# Altium schematic symbol library 集成IC.SchLib: 66 symbols
Pins are listed as number, name and electrical type; pins without a type are passive.

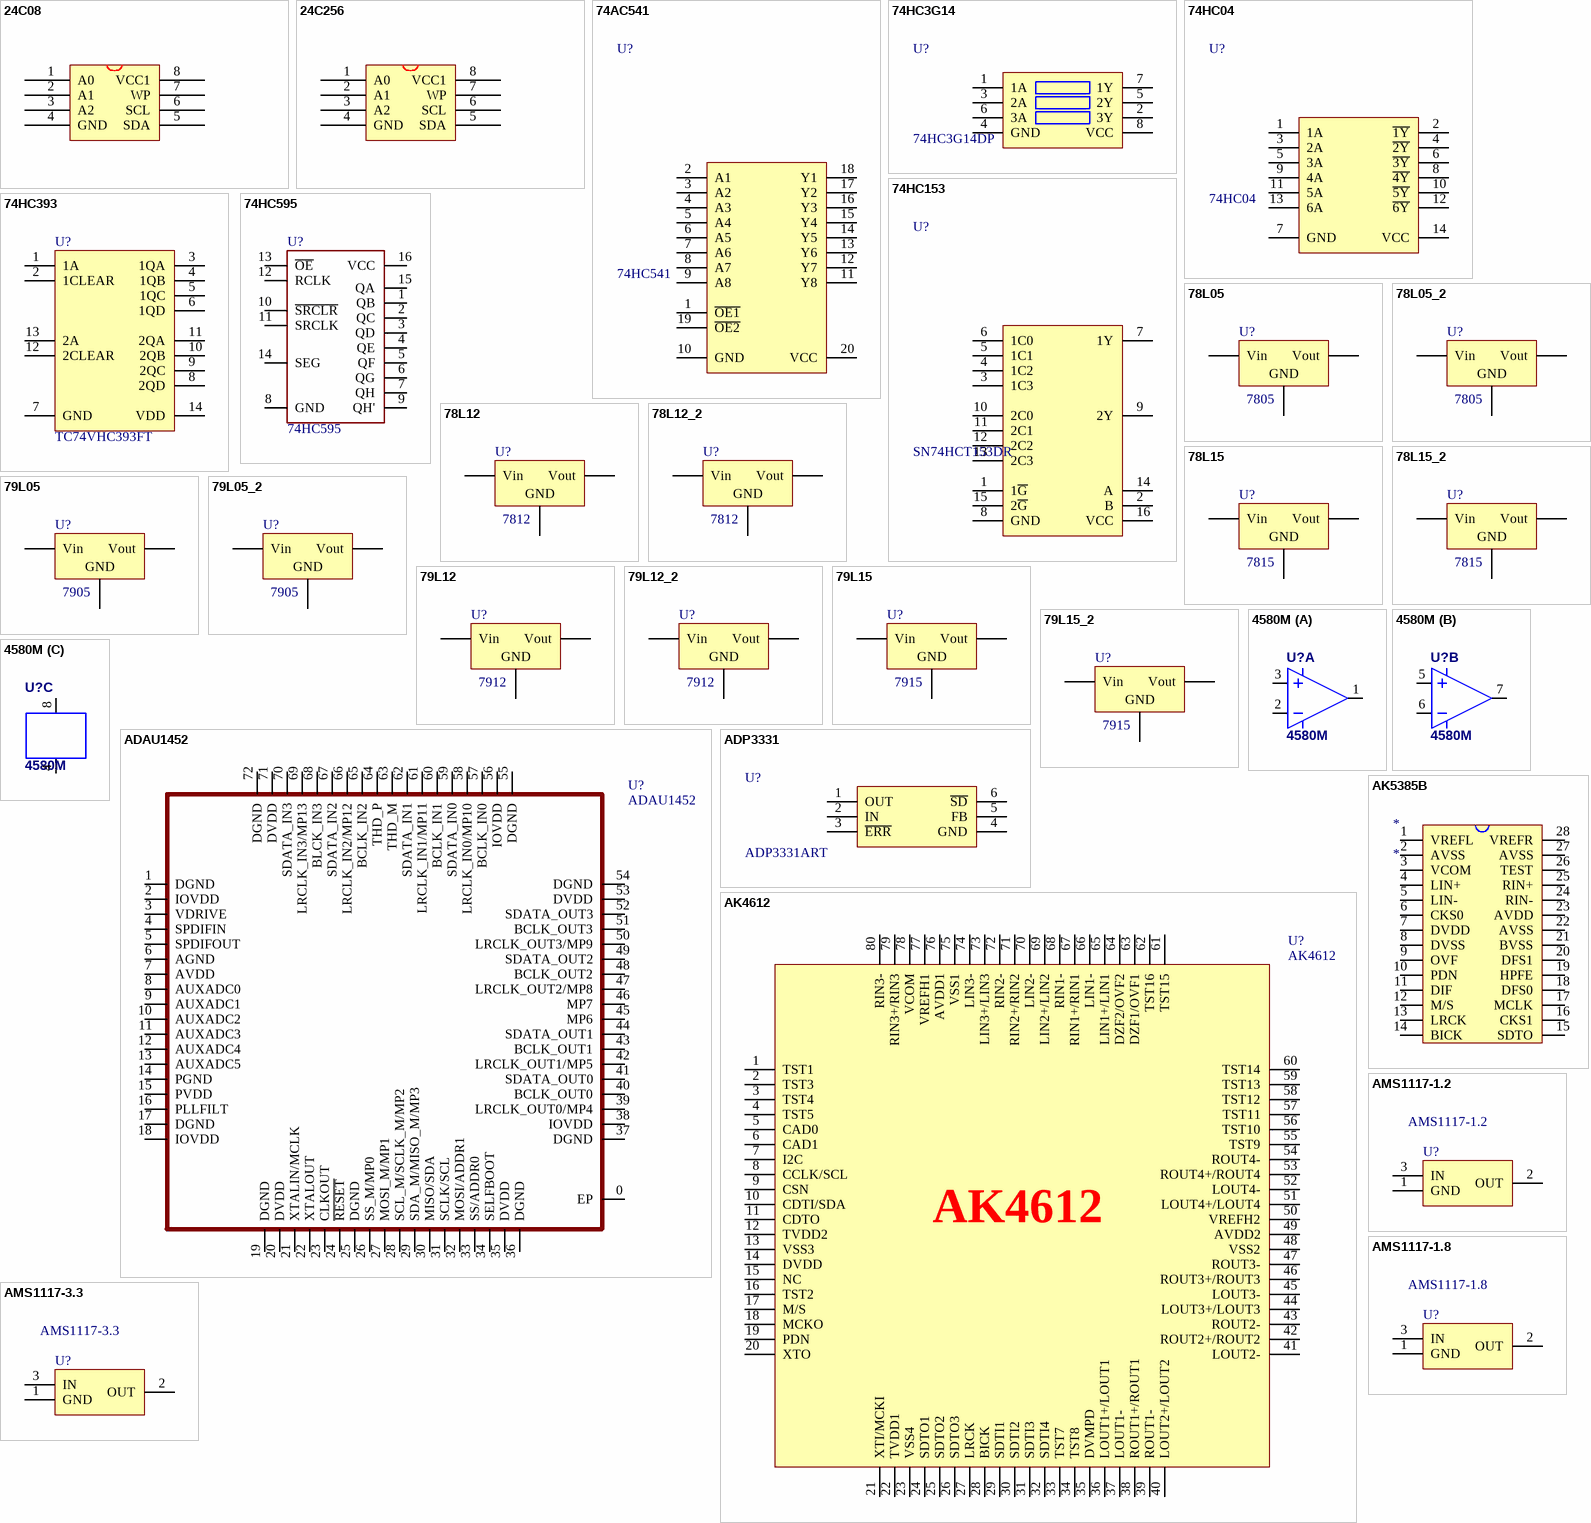
[diagram p0: symbols 24C08 to AMS1117-3.3]

## 24C08
designator U?
HK24C08贴片IC; 物料代码: 3.01.04.02.0079; 助记码: HK24C08TPIC; 规格型号: SOP8; 仓库名称: 元件仓; 单位: 只; 加工方式: 贴片; 物料名称: HK24C08贴片IC; 备注: *
footprint SOP 8
pins: 1 A0, 2 A1, 3 A2, 4 GND, 5 SDA, 6 SCL, 7 WP, 8 VCC1

## 24C256
designator U?, comment 24C04
仓库名称: 元件仓; 单位: 只; 加工方式: 贴片; 物料代码: *; 物料名称: *; 助记码: *; 规格型号: *; 备注: *
footprint SOP 8
pins: 1 A0, 2 A1, 3 A2, 4 GND, 5 SDA, 6 SCL, 7 WP, 8 VCC1
1 alternate drawing of the same symbol

## 74AC541
designator U?, comment 74HC541
74HC541D贴片IC; 物料代码: 3.01.04.02.0051; 助记码: 74HC541DTPIC; 规格型号: SOP-20; 单位: 只; 仓库名称: 元件仓; 物料名称: 74HC541D贴片IC; 加工方式: *
footprint TSSOP 20
pins: 1 ~{OE1} (power), 2 A1, 3 A2, 4 A3, 5 A4, 6 A5, 7 A6, 8 A7, 9 A8, 10 GND, 11 Y8, 12 Y7, 13 Y6, 14 Y5, 15 Y4, 16 Y3, 17 Y2, 18 Y1, 19 ~{OE2} (power), 20 VCC

## 74HC3G14
designator U?, comment 74HC3G14DP
74HC3G14DP 贴片IC; 物料代码: 3.01.04.02.0024; 助记码: 74HC3G14DP TPIC; 规格型号: TSSOP-8; 仓库名称: 元件仓; 单位: 只; 物料名称: 74HC3G14DP 贴片IC; 备注: *; 加工方式: *
footprint TSSOP 8
pins: 1 1A, 2 3Y, 3 2A, 4 GND, 5 2Y, 6 3A, 7 1Y (hiz), 8 VCC

## 74HC04
designator U?
74HC04D 贴片IC; 物料代码: 3.01.04.02.0020; 规格型号: SOP-14; 助记码: 74HC04D TPIC; 单位: 只; 仓库名称: 元件仓; 物料名称: 74HC04D 贴片IC; 备注: *; 加工方式: *
footprint SOP 14
pins: 1 1A, 2 ~{1Y}, 3 2A, 4 ~{2Y}, 5 3A, 6 ~{3Y}, 7 GND, 8 ~{4Y}, 9 4A, 10 ~{5Y}, 11 5A, 12 ~{6Y}, 13 6A, 14 VCC
2 alternate drawings of the same symbol

## 74HC153
designator U?, comment SN74HCT153DR
74HC153D 贴片IC; 物料代码: 3.01.04.02.0021; 助记码: 74HC153D TPIC; 规格型号: SOP-16; 单位: 只; 仓库名称: 元件仓; 物料名称: 74HC153D 贴片IC; 加工方式: *
footprint SOP 16
pins: 1 1~{G}, 2 B, 3 1C3, 4 1C2, 5 1C1, 6 1C0, 7 1Y, 8 GND, 9 2Y, 10 2C0, 11 2C1, 12 2C2, 13 2C3, 14 A, 15 2~{G}, 16 VCC

## 74HC393
designator U?, comment TC74VHC393FT
TC74VHC393FT 贴片IC; 加工方式: 贴片; 物料代码: 3.01.04.02.0023; 助记码: TSSOP-14; 规格型号: TC74VHC393FT TPIC; 单位: 只; 仓库名称: 元件仓; 物料名称: TC74VHC393FT 贴片IC; 备注: *
footprint TSSOP 14
pins: 1 1A, 2 1CLEAR, 3 1QA, 4 1QB, 5 1QC, 6 1QD, 7 GND (power), 8 2QD, 9 2QC, 10 2QB, 11 2QA, 12 2CLEAR, 13 2A, 14 VDD (power)

## 74HC595
designator U?
单位: 只; 仓库名称: 元件仓; 加工方式: 贴片; 物料代码: *; 物料名称: *; 助记码: *; 规格型号: *; 备注: *
footprint SOP 16
pins: 1 QB, 2 QC, 3 QD, 4 QE, 5 QF, 6 QG, 7 QH, 8 GND, 9 QH', 10 ~{SRCLR}, 11 SRCLK, 12 RCLK, 13 ~{OE}, 14 SEG, 15 QA, 16 VCC

## 78L05
designator U?, comment 7805
L7805直插稳压管; 物料代码: 3.01.16.01.0006; 助记码: L7805ZCWYG; 仓库名称: 元件仓; 单位: 个; 规格型号: TO-220; 加工方式: 插件; 物料名称: L7805直插稳压管
footprint TO 220
pins: 1 Vin, 2 GND, 3 Vout

## 78L05_2
designator U?, comment 7805
L7805直插稳压管（带散热架）; 物料代码: 3.01.16.01.0006; 助记码: L7805ZCWYG; 仓库名称: 元件仓; 单位: 个; 规格型号: TO-220; 备注: （带散热架）; 加工方式: 插件; 物料名称: L7805直插稳压管
footprint TO 220_2 (带散热架)
pins: 1 Vin, 2 GND, 3 Vout

## 78L12
designator U?, comment 7812
L7812CV直插稳压管; 物料代码: 3.01.16.01.0005; 仓库名称: 元件仓; 单位: 只; 规格型号: TO-220; 加工方式: 插件; 物料名称: L7812CV直插稳压管; 助记码: *; 备注: *
footprint TO 220
pins: 1 Vin, 2 GND, 3 Vout

## 78L12_2
designator U?, comment 7812
L7812CV直插稳压管（带散热架）; 物料代码: 3.01.16.01.0005; 仓库名称: 元件仓; 单位: 只; 规格型号: TO-220; 备注: （带散热架）; 加工方式: 插件; 物料名称: L7812CV直插稳压管; 助记码: *
footprint TO 220
pins: 1 Vin, 2 GND, 3 Vout

## 78L15
designator U?, comment 7815
KA7815直插稳压管; 物料代码: 3.01.16.01.0001; 助记码: KA7815ZCWYG; 仓库名称: 元件仓; 单位: 只; 规格型号: TO-220; 加工方式: 插件; 物料名称: KA7815直插稳压管; 备注: *
footprint TO 220
pins: 1 Vin, 2 GND, 3 Vout

## 78L15_2
designator U?, comment 7815
KA7815直插稳压管（带散热架）; 物料代码: 3.01.16.01.0001; 助记码: KA7815ZCWYG; 仓库名称: 元件仓; 单位: 只; 规格型号: TO-220; 备注: （带散热架）; 加工方式: 插件; 物料名称: KA7815直插稳压管
footprint TO 220
pins: 1 Vin, 2 GND, 3 Vout

## 79L05
designator U?, comment 7905
L7905CV直插稳压管; 物料代码: 3.01.16.01.0002; 仓库名称: 元件仓; 单位: 只; 规格型号: TO-220; 加工方式: 插件; 物料名称: L7905CV直插稳压管
footprint TO 220
pins: 1 GND, 2 Vin, 3 Vout

## 79L05_2
designator U?, comment 7905
L7905CV直插稳压管（带散热架）; 物料代码: 3.01.16.01.0002; 仓库名称: 元件仓; 单位: 只; 规格型号: TO-220; 备注: （带散热架）; 加工方式: 插件; 物料名称: L7905CV直插稳压管
footprint TO 220
pins: 1 GND, 2 Vin, 3 Vout

## 79L12
designator U?, comment 7912
L7912CV直插稳压管; 物料代码: 3.01.16.01.0004; 仓库名称: 元件仓; 单位: 只; 规格型号: TO-220; 加工方式: 插件; 物料名称: L7912CV直插稳压管; 助记码: *; 备注: *
footprint TO 220
pins: 1 GND, 2 Vin, 3 Vout

## 79L12_2
designator U?, comment 7912
L7912CV直插稳压管（带散热架）; 物料代码: 3.01.16.01.0004; 仓库名称: 元件仓; 单位: 只; 规格型号: TO-220; 备注: （带散热架）; 加工方式: 插件; 物料名称: L7912CV直插稳压管; 助记码: *
footprint TO 220
pins: 1 GND, 2 Vin, 3 Vout

## 79L15
designator U?, comment 7915
KA7915直插稳压管; 物料代码: 3.01.16.01.0009; 助记码: KA7915ZCWYG; 仓库名称: 元件仓; 单位: 只; 规格型号: TO-220; 加工方式: 插件; 物料名称: KA7915直插稳压管; 备注: *
footprint TO 220
pins: 1 GND, 2 Vin, 3 Vout

## 79L15_2
designator U?, comment 7915
KA7915直插稳压管（带散热架）; 物料代码: 3.01.16.01.0009; 助记码: KA7915ZCWYG; 仓库名称: 元件仓; 单位: 只; 规格型号: TO-220; 备注: （带散热架）; 加工方式: 插件; 物料名称: KA7915直插稳压管
footprint TO 220
pins: 1 GND, 2 Vin, 3 Vout

## 4580M
designator U?
SRT4580SM TRPBF贴片IC 运算放大器; 物料代码: 3.01.04.02.0065; 助记码: SRT4580SM TRPBFTPIC; 规格型号: SOP8; 仓库名称: 元件仓; 单位: 只; 加工方式: 贴片; 物料名称: SRT4580SM TRPBF贴片IC 运算放大器; 备注: *
footprint SOP 8
part A pins: 1, 2, 3
part B pins: 5, 6, 7
part C pins: 4, 8

## ADAU1452
designator U?
物料名称: *; 加工方式: *; 物料代码: *; 助记码: *; 规格型号: *; 单位: *; 备注: *; 仓库名称: *
footprint LFCSP 72 - duplicate
pins: 0 EP, 1 DGND, 2 IOVDD, 3 VDRIVE, 4 SPDIFIN, 5 SPDIFOUT, 6 AGND, 7 AVDD, 8 AUXADC0, 9 AUXADC1, 10 AUXADC2, 11 AUXADC3, 12 AUXADC4, 13 AUXADC5, 14 PGND, 15 PVDD, 16 PLLFILT, 17 DGND, 18 IOVDD, 19 DGND, 20 DVDD, 21 XTALIN/MCLK, 22 XTALOUT, 23 CLKOUT, 24 ~{RESET}, 25 DGND, 26 SS_M/MP0, 27 MOSI_M/MP1, 28 SCL_M/SCLK_M/MP2, 29 SDA_M/MISO_M/MP3, 30 MISO/SDA, 31 SCLK/SCL, 32 MOSI/ADDR1, 33 SS/ADDR0, 34 SELFBOOT, 35 DVDD, 36 DGND, 37 DGND, 38 IOVDD, 39 LRCLK_OUT0/MP4, 40 BCLK_OUT0, 41 SDATA_OUT0, 42 LRCLK_OUT1/MP5, 43 BCLK_OUT1, 44 SDATA_OUT1, 45 MP6, 46 MP7, 47 LRCLK_OUT2/MP8, 48 BCLK_OUT2, 49 SDATA_OUT2, 50 LRCLK_OUT3/MP9, 51 BCLK_OUT3, 52 SDATA_OUT3, 53 DVDD, 54 DGND, 55 DGND, 56 IOVDD, 57 BCLK_IN0, 58 LRCLK_IN0/MP10, 59 SDATA_IN0, 60 BCLK_IN1, 61 LRCLK_IN1/MP11, 62 SDATA_IN1, 63 THD_M, 64 THD_P, 65 BCLK_IN2, 66 LRCLK_IN2/MP12, 67 SDATA_IN2, 68 BLCK_IN3, 69 LRCLK_IN3/MP13, 70 SDATA_IN3, 71 DVDD, 72 DGND

## ADP3331
designator U?, comment ADP3331ART
高精度、超低静态电流LDO; 仓库名称: 元件仓; 单位: 只; 加工方式: 贴片; 物料代码: *; 物料名称: *; 助记码: *; 规格型号: *; 备注: *
footprint SOT 23-6
pins: 1 OUT, 2 IN, 3 ~{ERR}, 4 GND, 5 FB, 6 ~{SD}

## AK4612
designator U?
AK4612-EQ贴片IC; 物料代码: 3.01.04.02.0063; 规格型号: LQFP80; 助记码: AK4612-EQTPIC; 单位: 只; 仓库名称: 元件仓; 加工方式: 贴片; 物料名称: AK4612-EQ贴片IC
footprint LQFP  80
pins: 1 TST1, 2 TST3, 3 TST4, 4 TST5, 5 CAD0, 6 CAD1, 7 I2C, 8 CCLK/SCL, 9 CSN, 10 CDTI/SDA, 11 CDTO, 12 TVDD2, 13 VSS3, 14 DVDD, 15 NC, 16 TST2, 17 M/S, 18 MCKO, 19 PDN, 20 XTO, 21 XTI/MCKI, 22 TVDD1, 23 VSS4, 24 SDTO1, 25 SDTO2, 26 SDTO3, 27 LRCK, 28 BICK, 29 SDTI1, 30 SDTI2, 31 SDTI3, 32 SDTI4, 33 TST7, 34 TST8, 35 DVMPD, 36 LOUT1+/LOUT1, 37 LOUT1-, 38 ROUT1+/ROUT1, 39 ROUT1-, 40 LOUT2+/LOUT2, 41 LOUT2-, 42 ROUT2+/ROUT2, 43 ROUT2-, 44 LOUT3+/LOUT3, 45 LOUT3-, 46 ROUT3+/ROUT3, 47 ROUT3-, 48 VSS2, 49 AVDD2, 50 VREFH2, 51 LOUT4+/LOUT4, 52 LOUT4-, 53 ROUT4+/ROUT4, 54 ROUT4-, 55 TST9, 56 TST10, 57 TST11, 58 TST12, 59 TST13, 60 TST14, 61 TST15, 62 TST16, 63 DZF1/OVF1, 64 DZF2/OVF2, 65 LIN1+/LIN1, 66 LIN1-, 67 RIN1+/RIN1, 68 RIN1-, 69 LIN2+/LIN2, 70 LIN2-, 71 RIN2+/RIN2, 72 RIN2-, 73 LIN3+/LIN3, 74 LIN3-, 75 VSS1, 76 AVDD1, 77 VREFH1, 78 VCOM, 79 RIN3+/RIN3, 80 RIN3-

## AK5385B
designator *
物料名称: *; 助记码: *; 规格型号: *; 仓库名称: *; 单位: *; 备注: *; 加工方式: *
footprint VSOP 28
pins: 1 VREFL, 2 AVSS, 3 VCOM, 4 LIN+, 5 LIN-, 6 CKS0, 7 DVDD, 8 DVSS, 9 OVF, 10 PDN, 11 DIF, 12 M/S, 13 LRCK, 14 BICK, 15 SDTO, 16 CKS1, 17 MCLK, 18 DFS0, 19 HPFE, 20 DFS1, 21 BVSS, 22 AVSS, 23 AVDD, 24 RIN-, 25 RIN+, 26 TEST, 27 AVSS, 28 VREFR

## AMS1117-1.2
designator U?
AMS1117-3.3 贴片稳压IC; 物料名称: AMS1117-1.2 贴片稳压IC; 仓库名称: 元件仓; 规格型号: ASM1117-1.2   1551TP; 单位: 只; 加工方式: 贴片; 备注: *
footprint SOT-223-4PIN (电源降压  5V降至3.3V)
pins: 1 GND, 2 OUT, 3 IN

## AMS1117-1.8
designator U?
AMS1117-1.8 贴片稳压IC; 仓库名称: 元件仓; 规格型号: ASM1117-1.8   1551TP; 单位: 只; 加工方式: 贴片; 物料名称: AMS1117-1.8 贴片稳压IC; 备注: *
footprint SOT-223-4PIN (电源降压  5V降至3.3V)
pins: 1 GND, 2 OUT, 3 IN

## AMS1117-3.3
designator U?
AMS1117-3.3 贴片稳压IC; 物料代码: 3.01.04.02.0004; 仓库名称: 元件仓; 助记码: SOT-223; 规格型号: ASM1117-3.3   1551TP; 单位: 只; 加工方式: 贴片; 物料名称: AMS1117-3.3 贴片稳压IC; 备注: *
footprint SOT 223
pins: 1 GND, 2 OUT, 3 IN

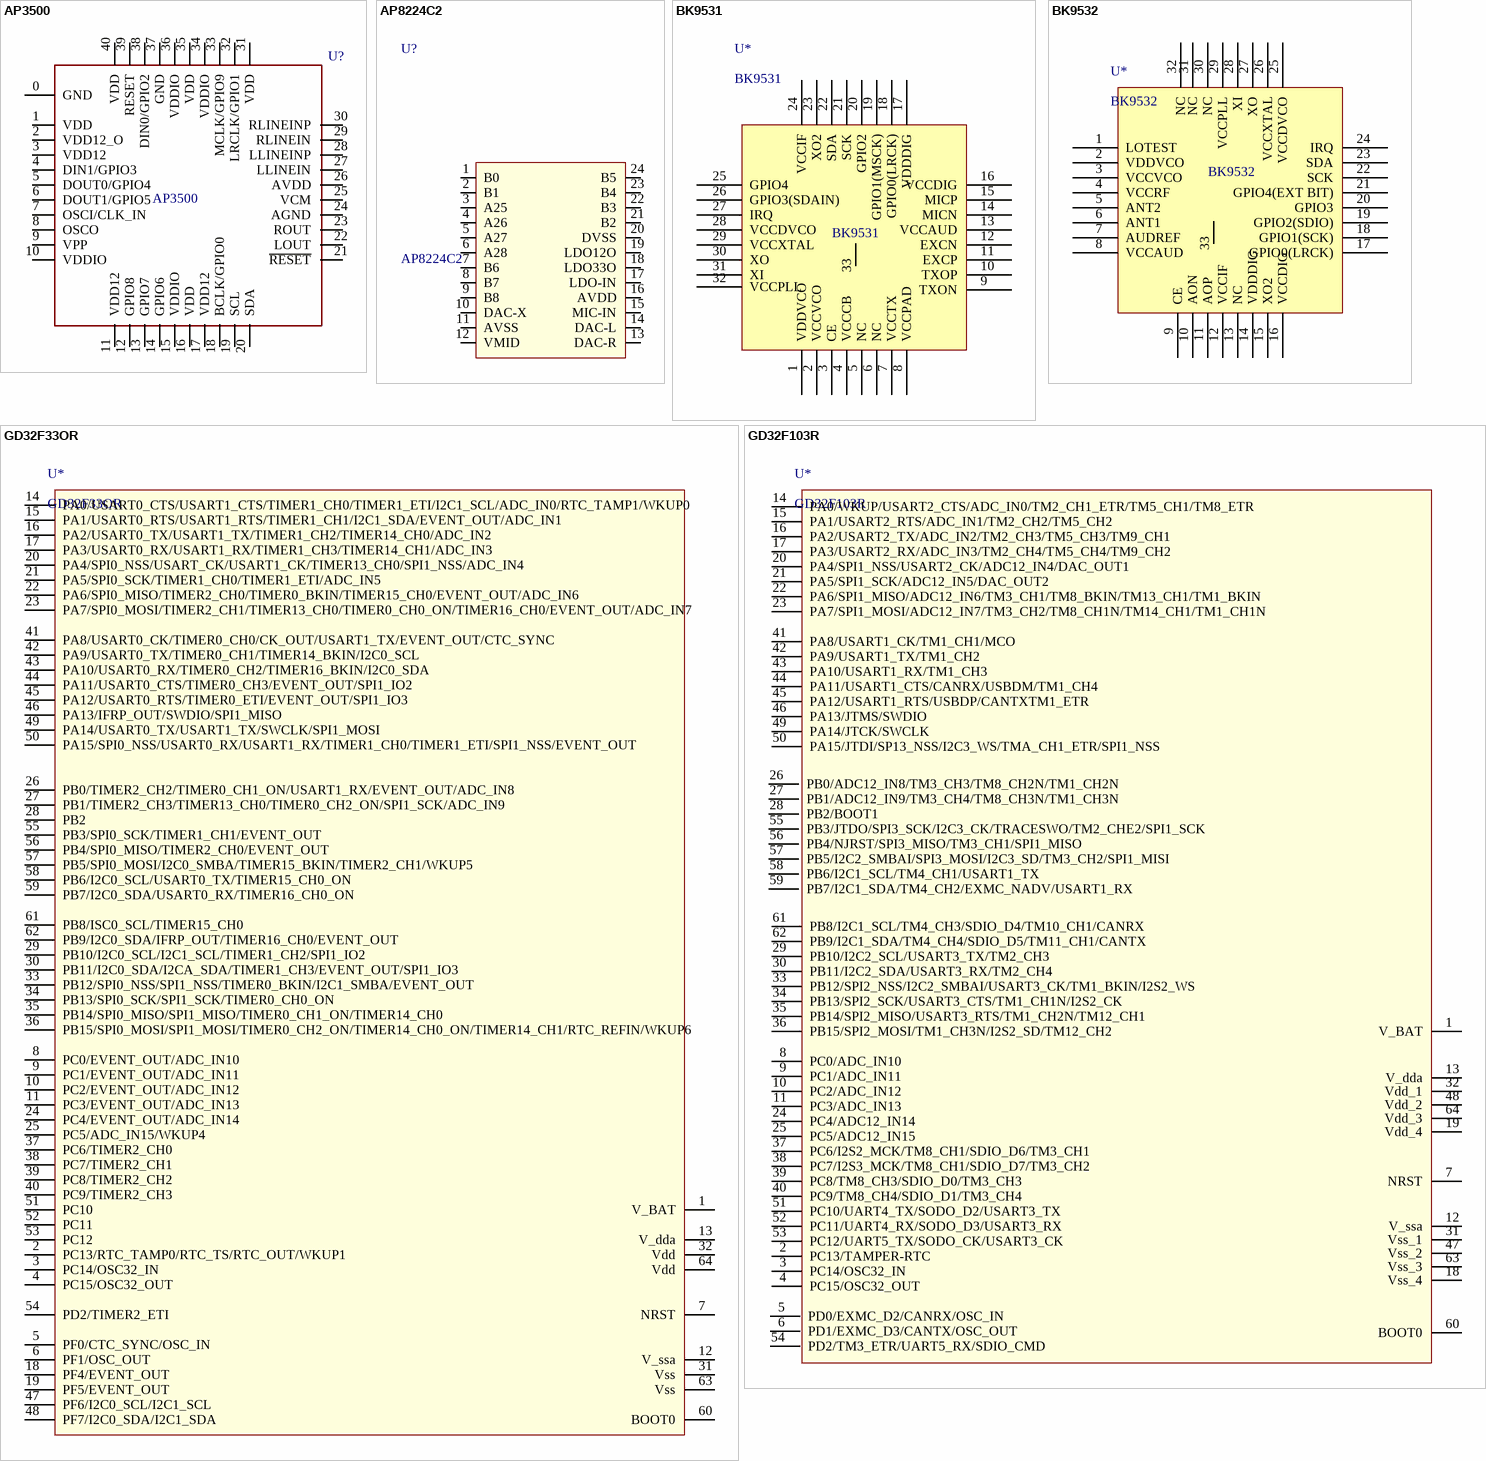
[diagram p1: symbols AP3500 to GD32F103R]

## AP3500
designator U?
仓库名称: 元件仓; 单位: 只; 加工方式: 贴片; 物料代码: *; 物料名称: *; 助记码: *; 规格型号: *; 备注: *
footprint QFN40 (AP3500   5*5MM)
pins: 0 GND, 1 VDD, 2 VDD12_O, 3 VDD12, 4 DIN1/GPIO3, 5 DOUT0/GPIO4, 6 DOUT1/GPIO5, 7 OSCI/CLK_IN, 8 OSCO, 9 VPP, 10 VDDIO, 11 VDD12, 12 GPIO8, 13 GPIO7, 14 GPIO6, 15 VDDIO, 16 VDD, 17 VDD12, 18 BCLK/GPIO0, 19 SCL, 20 SDA, 21 ~{RESET}, 22 LOUT, 23 ROUT, 24 AGND, 25 VCM, 26 AVDD, 27 LLINEIN, 28 LLINEINP, 29 RLINEIN, 30 RLINEINP, 31 VDD, 32 LRCLK/GPIO1, 33 MCLK/GPIO9, 34 VDDIO, 35 VDD, 36 VDDIO, 37 GND, 38 DIN0/GPIO2, 39 RESET, 40 VDD

## AP8224C2
designator U?
（无）AP8224C2; 仓库名称: 元件仓; 单位: 只; 加工方式: 贴片; 物料代码: *; 物料名称: *; 助记码: *; 备注: *; 规格型号: *
footprint TSSOP 24
pins: 1 B0, 2 B1, 3 A25, 4 A26, 5 A27, 6 A28, 7 B6, 8 B7, 9 B8, 10 DAC-X, 11 AVSS, 12 VMID, 13 DAC-R, 14 DAC-L, 15 MIC-IN, 16 AVDD, 17 LDO-IN, 18 LDO33O, 19 LDO12O, 20 DVSS, 21 B2, 22 B3, 23 B4, 24 B5

## BK9531
designator U*
QFN5x5 32
footprint QFN32 (BK953* 5x5)
pins: 1 VDDVCO, 2 VCCVCO, 3 CE, 4 VCCCB, 5 NC, 6 NC, 7 VCCTX, 8 VCCPAD, 9 TXON, 10 TXOP, 11 EXCP, 12 EXCN, 13 VCCAUD, 14 MICN, 15 MICP, 16 VCCDIG, 17 VDDDIG, 18 GPIO0(LRCK), 19 GPIO1(MSCK), 20 GPIO2, 21 SCK, 22 SDA, 23 XO2, 24 VCCIF, 25 GPIO4, 26 GPIO3(SDAIN), 27 IRQ, 28 VCCDVCO, 29 VCCXTAL, 30 XO, 31 XI, 32 VCCPLL, 33

## BK9532
designator U*
QFN5x5 32
footprint QFN32 (BK953* 5x5)
pins: 1 LOTEST, 2 VDDVCO, 3 VCCVCO, 4 VCCRF, 5 ANT2, 6 ANT1, 7 AUDREF, 8 VCCAUD, 9 CE, 10 AON, 11 AOP, 12 VCCIF, 13 NC, 14 VDDDIG, 15 XO2, 16 VCCDIG, 17 GPIO0(LRCK), 18 GPIO1(SCK), 19 GPIO2(SDIO), 20 GPIO3, 21 GPIO4(EXT BIT), 22 SCK, 23 SDA, 24 IRQ, 25 VCCDVCO, 26 VCCXTAL, 27 XO, 28 XI, 29 VCCPLL, 30 NC, 31 NC, 32 NC, 33

## GD32F33OR
designator U*
LQFP64; 单位: 只; 仓库名称: 元件仓; 加工方式: 贴片; 物料名称: GD32F33OR; 物料代码: *; 规格型号: *; 助记码: *; 备注: *
footprint LQFP  64
pins: 1 V_BAT, 2 PC13/RTC_TAMP0/RTC_TS/RTC_OUT/WKUP1, 3 PC14/OSC32_IN, 4 PC15/OSC32_OUT, 5 PF0/CTC_SYNC/OSC_IN, 6 PF1/OSC_OUT, 7 NRST, 8 PC0/EVENT_OUT/ADC_IN10, 9 PC1/EVENT_OUT/ADC_IN11, 10 PC2/EVENT_OUT/ADC_IN12, 11 PC3/EVENT_OUT/ADC_IN13, 12 V_ssa, 13 V_dda, 14 PA0/USART0_CTS/USART1_CTS/TIMER1_CH0/TIMER1_ETI/I2C1_SCL/ADC_IN0/RTC_TAMP1/WKUP0, 15 PA1/USART0_RTS/USART1_RTS/TIMER1_CH1/I2C1_SDA/EVENT_OUT/ADC_IN1, 16 PA2/USART0_TX/USART1_TX/TIMER1_CH2/TIMER14_CH0/ADC_IN2, 17 PA3/USART0_RX/USART1_RX/TIMER1_CH3/TIMER14_CH1/ADC_IN3, 18 PF4/EVENT_OUT, 19 PF5/EVENT_OUT, 20 PA4/SPI0_NSS/USART_CK/USART1_CK/TIMER13_CH0/SPI1_NSS/ADC_IN4, 21 PA5/SPI0_SCK/TIMER1_CH0/TIMER1_ETI/ADC_IN5, 22 PA6/SPI0_MISO/TIMER2_CH0/TIMER0_BKIN/TIMER15_CH0/EVENT_OUT/ADC_IN6, 23 PA7/SPI0_MOSI/TIMER2_CH1/TIMER13_CH0/TIMER0_CH0_ON/TIMER16_CH0/EVENT_OUT/ADC_IN7, 24 PC4/EVENT_OUT/ADC_IN14, 25 PC5/ADC_IN15/WKUP4, 26 PB0/TIMER2_CH2/TIMER0_CH1_ON/USART1_RX/EVENT_OUT/ADC_IN8, 27 PB1/TIMER2_CH3/TIMER13_CH0/TIMER0_CH2_ON/SPI1_SCK/ADC_IN9, 28 PB2, 29 PB10/I2C0_SCL/I2C1_SCL/TIMER1_CH2/SPI1_IO2, 30 PB11/I2C0_SDA/I2CA_SDA/TIMER1_CH3/EVENT_OUT/SPI1_IO3, 31 Vss, 32 Vdd, 33 PB12/SPI0_NSS/SPI1_NSS/TIMER0_BKIN/I2C1_SMBA/EVENT_OUT, 34 PB13/SPI0_SCK/SPI1_SCK/TIMER0_CH0_ON, 35 PB14/SPI0_MISO/SPI1_MISO/TIMER0_CH1_ON/TIMER14_CH0, 36 PB15/SPI0_MOSI/SPI1_MOSI/TIMER0_CH2_ON/TIMER14_CH0_ON/TIMER14_CH1/RTC_REFIN/WKUP6, 37 PC6/TIMER2_CH0, 38 PC7/TIMER2_CH1, 39 PC8/TIMER2_CH2, 40 PC9/TIMER2_CH3, 41 PA8/USART0_CK/TIMER0_CH0/CK_OUT/USART1_TX/EVENT_OUT/CTC_SYNC, 42 PA9/USART0_TX/TIMER0_CH1/TIMER14_BKIN/I2C0_SCL, 43 PA10/USART0_RX/TIMER0_CH2/TIMER16_BKIN/I2C0_SDA, 44 PA11/USART0_CTS/TIMER0_CH3/EVENT_OUT/SPI1_IO2, 45 PA12/USART0_RTS/TIMER0_ETI/EVENT_OUT/SPI1_IO3, 46 PA13/IFRP_OUT/SWDIO/SPI1_MISO, 47 PF6/I2C0_SCL/I2C1_SCL, 48 PF7/I2C0_SDA/I2C1_SDA, 49 PA14/USART0_TX/USART1_TX/SWCLK/SPI1_MOSI, 50 PA15/SPI0_NSS/USART0_RX/USART1_RX/TIMER1_CH0/TIMER1_ETI/SPI1_NSS/EVENT_OUT, 51 PC10, 52 PC11, 53 PC12, 54 PD2/TIMER2_ETI, 55 PB3/SPI0_SCK/TIMER1_CH1/EVENT_OUT, 56 PB4/SPI0_MISO/TIMER2_CH0/EVENT_OUT, 57 PB5/SPI0_MOSI/I2C0_SMBA/TIMER15_BKIN/TIMER2_CH1/WKUP5, 58 PB6/I2C0_SCL/USART0_TX/TIMER15_CH0_ON, 59 PB7/I2C0_SDA/USART0_RX/TIMER16_CH0_ON, 60 BOOT0, 61 PB8/ISC0_SCL/TIMER15_CH0, 62 PB9/I2C0_SDA/IFRP_OUT/TIMER16_CH0/EVENT_OUT, 63 Vss, 64 Vdd

## GD32F103R
designator U*
LQFP64; 物料名称: GD32F33OR; 单位: 只; 仓库名称: 元件仓; 加工方式: 贴片; 物料代码: *; 规格型号: *; 助记码: *; 备注: *
footprint LQFP  64
pins: 1 V_BAT, 2 PC13/TAMPER-RTC, 3 PC14/OSC32_IN, 4 PC15/OSC32_OUT, 5 PD0/EXMC_D2/CANRX/OSC_IN, 6 PD1/EXMC_D3/CANTX/OSC_OUT, 7 NRST, 8 PC0/ADC_IN10, 9 PC1/ADC_IN11, 10 PC2/ADC_IN12, 11 PC3/ADC_IN13, 12 V_ssa, 13 V_dda, 14 PA0/WKUP/USART2_CTS/ADC_IN0/TM2_CH1_ETR/TM5_CH1/TM8_ETR, 15 PA1/USART2_RTS/ADC_IN1/TM2_CH2/TM5_CH2, 16 PA2/USART2_TX/ADC_IN2/TM2_CH3/TM5_CH3/TM9_CH1, 17 PA3/USART2_RX/ADC_IN3/TM2_CH4/TM5_CH4/TM9_CH2, 18 Vss_4, 19 Vdd_4, 20 PA4/SPI1_NSS/USART2_CK/ADC12_IN4/DAC_OUT1, 21 PA5/SPI1_SCK/ADC12_IN5/DAC_OUT2, 22 PA6/SPI1_MISO/ADC12_IN6/TM3_CH1/TM8_BKIN/TM13_CH1/TM1_BKIN, 23 PA7/SPI1_MOSI/ADC12_IN7/TM3_CH2/TM8_CH1N/TM14_CH1/TM1_CH1N, 24 PC4/ADC12_IN14, 25 PC5/ADC12_IN15, 26 PB0/ADC12_IN8/TM3_CH3/TM8_CH2N/TM1_CH2N, 27 PB1/ADC12_IN9/TM3_CH4/TM8_CH3N/TM1_CH3N, 28 PB2/BOOT1, 29 PB10/I2C2_SCL/USART3_TX/TM2_CH3  , 30 PB11/I2C2_SDA/USART3_RX/TM2_CH4  , 31 Vss_1, 32 Vdd_1, 33 PB12/SPI2_NSS/I2C2_SMBAI/USART3_CK/TM1_BKIN/I2S2_WS  , 34 PB13/SPI2_SCK/USART3_CTS/TM1_CH1N/I2S2_CK  , 35 PB14/SPI2_MISO/USART3_RTS/TM1_CH2N/TM12_CH1  , 36 PB15/SPI2_MOSI/TM1_CH3N/I2S2_SD/TM12_CH2  , 37 PC6/I2S2_MCK/TM8_CH1/SDIO_D6/TM3_CH1  , 38 PC7/I2S3_MCK/TM8_CH1/SDIO_D7/TM3_CH2  , 39 PC8/TM8_CH3/SDIO_D0/TM3_CH3  , 40 PC9/TM8_CH4/SDIO_D1/TM3_CH4  , 41 PA8/USART1_CK/TM1_CH1/MCO  , 42 PA9/USART1_TX/TM1_CH2  , 43 PA10/USART1_RX/TM1_CH3  , 44 PA11/USART1_CTS/CANRX/USBDM/TM1_CH4  , 45 PA12/USART1_RTS/USBDP/CANTXTM1_ETR  , 46 PA13/JTMS/SWDIO  , 47 Vss_2, 48 Vdd_2, 49 PA14/JTCK/SWCLK  , 50 PA15/JTDI/SP13_NSS/I2C3_WS/TMA_CH1_ETR/SPI1_NSS  , 51 PC10/UART4_TX/SODO_D2/USART3_TX  , 52 PC11/UART4_RX/SODO_D3/USART3_RX  , 53 PC12/UART5_TX/SODO_CK/USART3_CK  , 54 PD2/TM3_ETR/UART5_RX/SDIO_CMD  , 55 PB3/JTDO/SPI3_SCK/I2C3_CK/TRACESWO/TM2_CHE2/SPI1_SCK  , 56 PB4/NJRST/SPI3_MISO/TM3_CH1/SPI1_MISO  , 57 PB5/I2C2_SMBAI/SPI3_MOSI/I2C3_SD/TM3_CH2/SPI1_MISI  , 58 PB6/I2C1_SCL/TM4_CH1/USART1_TX  , 59 PB7/I2C1_SDA/TM4_CH2/EXMC_NADV/USART1_RX  , 60 BOOT0, 61 PB8/I2C1_SCL/TM4_CH3/SDIO_D4/TM10_CH1/CANRX  , 62 PB9/I2C1_SDA/TM4_CH4/SDIO_D5/TM11_CH1/CANTX  , 63 Vss_3, 64 Vdd_3

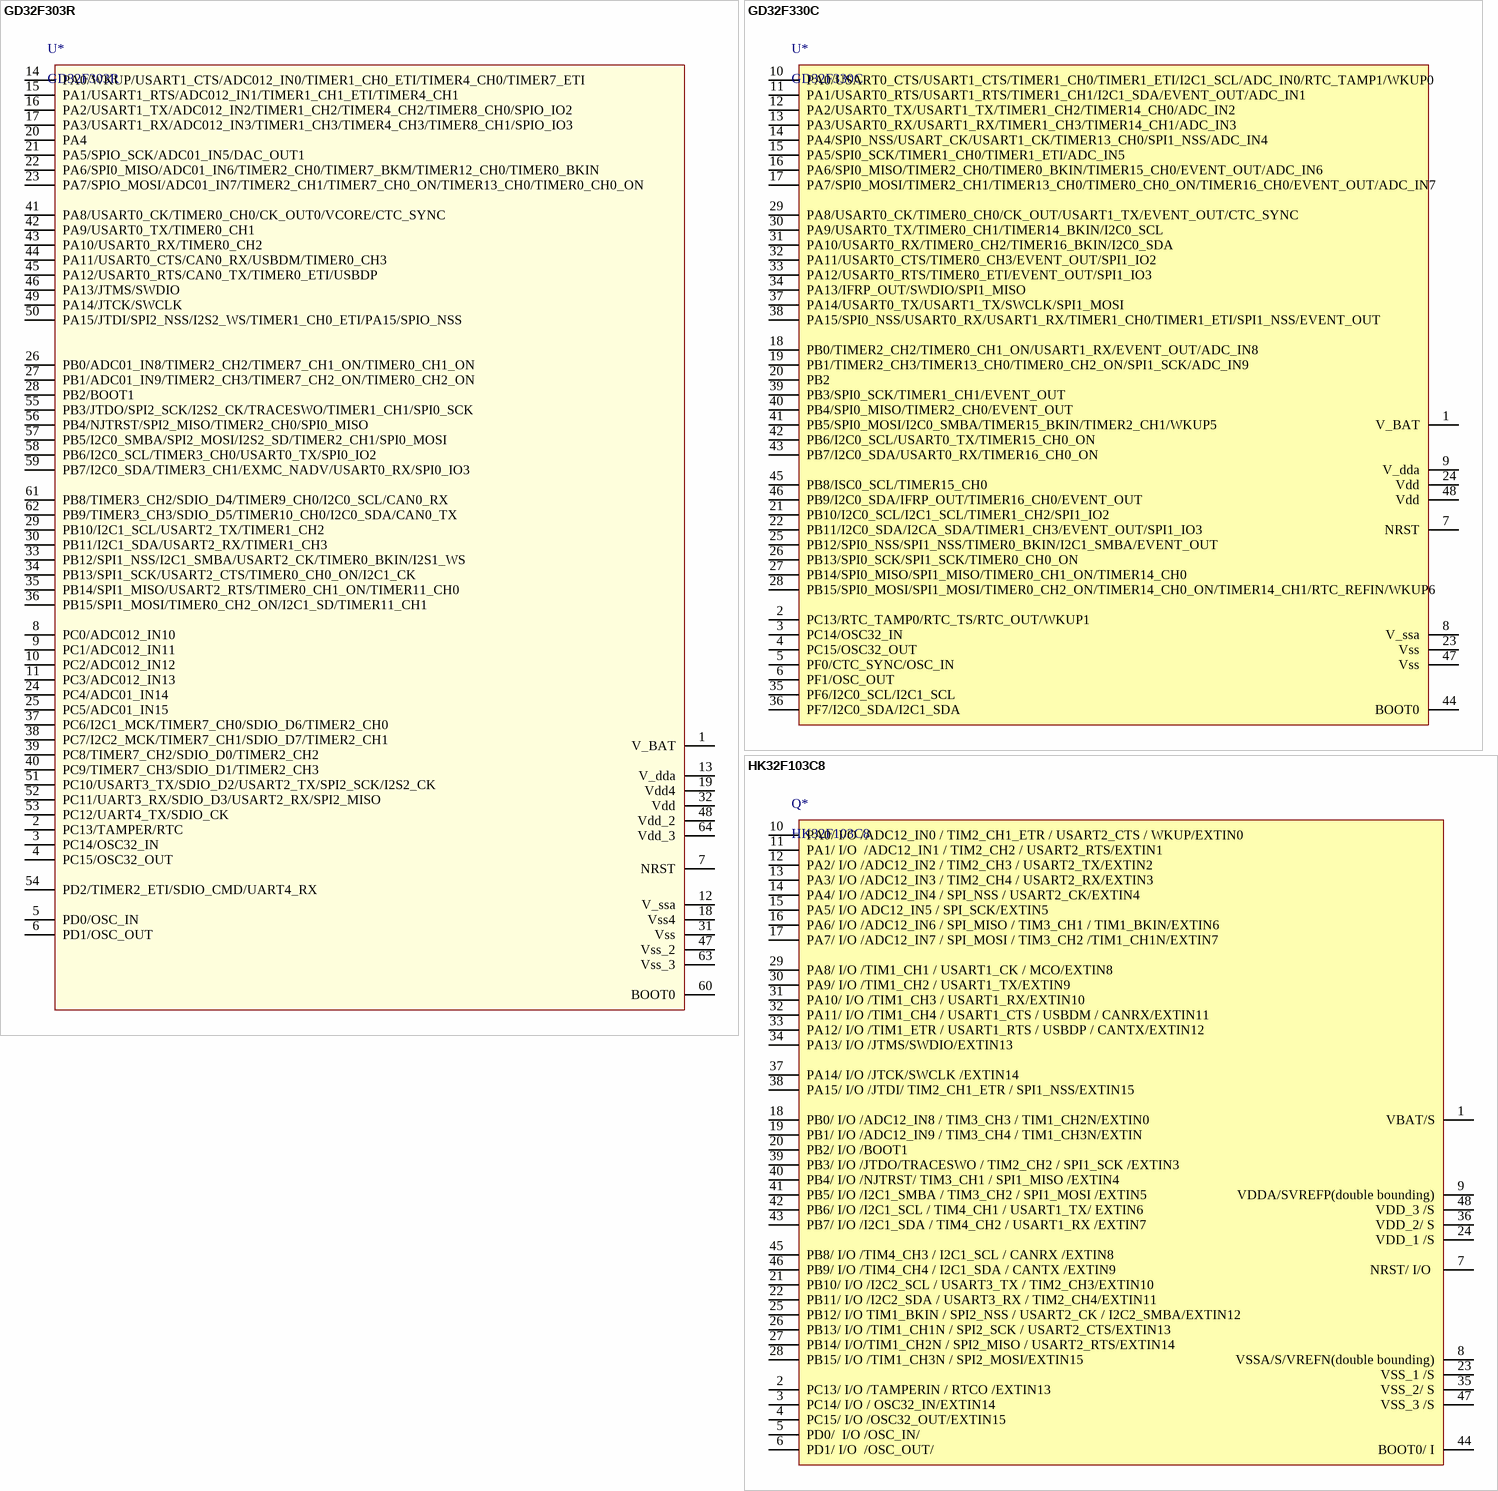
[diagram p2: symbols GD32F303R to HK32F103C8]

## GD32F303R
designator U*
LQFP64; 单位: 只; 仓库名称: 元件仓; 加工方式: 贴片; 物料名称: GD32F303R; 物料代码: *; 规格型号: *; 助记码: *; 备注: *
footprint LQFP  64
pins: 1 V_BAT, 2 PC13/TAMPER/RTC, 3 PC14/OSC32_IN, 4 PC15/OSC32_OUT, 5 PD0/OSC_IN, 6 PD1/OSC_OUT, 7 NRST, 8 PC0/ADC012_IN10, 9 PC1/ADC012_IN11, 10 PC2/ADC012_IN12, 11 PC3/ADC012_IN13, 12 V_ssa, 13 V_dda, 14 PA0/WKUP/USART1_CTS/ADC012_IN0/TIMER1_CH0_ETI/TIMER4_CH0/TIMER7_ETI, 15 PA1/USART1_RTS/ADC012_IN1/TIMER1_CH1_ETI/TIMER4_CH1, 16 PA2/USART1_TX/ADC012_IN2/TIMER1_CH2/TIMER4_CH2/TIMER8_CH0/SPIO_IO2, 17 PA3/USART1_RX/ADC012_IN3/TIMER1_CH3/TIMER4_CH3/TIMER8_CH1/SPIO_IO3, 18 Vss4, 19 Vdd4, 20 PA4, 21 PA5/SPIO_SCK/ADC01_IN5/DAC_OUT1, 22 PA6/SPI0_MISO/ADC01_IN6/TIMER2_CH0/TIMER7_BKM/TIMER12_CH0/TIMER0_BKIN, 23 PA7/SPIO_MOSI/ADC01_IN7/TIMER2_CH1/TIMER7_CH0_ON/TIMER13_CH0/TIMER0_CH0_ON, 24 PC4/ADC01_IN14, 25 PC5/ADC01_IN15, 26 PB0/ADC01_IN8/TIMER2_CH2/TIMER7_CH1_ON/TIMER0_CH1_ON, 27 PB1/ADC01_IN9/TIMER2_CH3/TIMER7_CH2_ON/TIMER0_CH2_ON, 28 PB2/BOOT1, 29 PB10/I2C1_SCL/USART2_TX/TIMER1_CH2, 30 PB11/I2C1_SDA/USART2_RX/TIMER1_CH3, 31 Vss, 32 Vdd, 33 PB12/SPI1_NSS/I2C1_SMBA/USART2_CK/TIMER0_BKIN/I2S1_WS, 34 PB13/SPI1_SCK/USART2_CTS/TIMER0_CH0_ON/I2C1_CK, 35 PB14/SPI1_MISO/USART2_RTS/TIMER0_CH1_ON/TIMER11_CH0, 36 PB15/SPI1_MOSI/TIMER0_CH2_ON/I2C1_SD/TIMER11_CH1, 37 PC6/I2C1_MCK/TIMER7_CH0/SDIO_D6/TIMER2_CH0, 38 PC7/I2C2_MCK/TIMER7_CH1/SDIO_D7/TIMER2_CH1, 39 PC8/TIMER7_CH2/SDIO_D0/TIMER2_CH2, 40 PC9/TIMER7_CH3/SDIO_D1/TIMER2_CH3, 41 PA8/USART0_CK/TIMER0_CH0/CK_OUT0/VCORE/CTC_SYNC, 42 PA9/USART0_TX/TIMER0_CH1, 43 PA10/USART0_RX/TIMER0_CH2, 44 PA11/USART0_CTS/CAN0_RX/USBDM/TIMER0_CH3, 45 PA12/USART0_RTS/CAN0_TX/TIMER0_ETI/USBDP, 46 PA13/JTMS/SWDIO, 47 Vss_2, 48 Vdd_2, 49 PA14/JTCK/SWCLK, 50 PA15/JTDI/SPI2_NSS/I2S2_WS/TIMER1_CH0_ETI/PA15/SPIO_NSS, 51 PC10/USART3_TX/SDIO_D2/USART2_TX/SPI2_SCK/I2S2_CK, 52 PC11/UART3_RX/SDIO_D3/USART2_RX/SPI2_MISO, 53 PC12/UART4_TX/SDIO_CK, 54 PD2/TIMER2_ETI/SDIO_CMD/UART4_RX, 55 PB3/JTDO/SPI2_SCK/I2S2_CK/TRACESWO/TIMER1_CH1/SPI0_SCK, 56 PB4/NJTRST/SPI2_MISO/TIMER2_CH0/SPI0_MISO, 57 PB5/I2C0_SMBA/SPI2_MOSI/I2S2_SD/TIMER2_CH1/SPI0_MOSI, 58 PB6/I2C0_SCL/TIMER3_CH0/USART0_TX/SPI0_IO2, 59 PB7/I2C0_SDA/TIMER3_CH1/EXMC_NADV/USART0_RX/SPI0_IO3, 60 BOOT0, 61 PB8/TIMER3_CH2/SDIO_D4/TIMER9_CH0/I2C0_SCL/CAN0_RX, 62 PB9/TIMER3_CH3/SDIO_D5/TIMER10_CH0/I2C0_SDA/CAN0_TX, 63 Vss_3, 64 Vdd_3

## GD32F330C
designator U*
LQFP48; 仓库名称: 元件仓; 单位: 只; 加工方式: 贴片; 物料名称: GD32F330C; 物料代码: *; 规格型号: *; 助记码: *; 备注: *
footprint LQFP  48
pins: 1 V_BAT, 2 PC13/RTC_TAMP0/RTC_TS/RTC_OUT/WKUP1, 3 PC14/OSC32_IN, 4 PC15/OSC32_OUT, 5 PF0/CTC_SYNC/OSC_IN, 6 PF1/OSC_OUT, 7 NRST, 8 V_ssa, 9 V_dda, 10 PA0/USART0_CTS/USART1_CTS/TIMER1_CH0/TIMER1_ETI/I2C1_SCL/ADC_IN0/RTC_TAMP1/WKUP0, 11 PA1/USART0_RTS/USART1_RTS/TIMER1_CH1/I2C1_SDA/EVENT_OUT/ADC_IN1, 12 PA2/USART0_TX/USART1_TX/TIMER1_CH2/TIMER14_CH0/ADC_IN2, 13 PA3/USART0_RX/USART1_RX/TIMER1_CH3/TIMER14_CH1/ADC_IN3, 14 PA4/SPI0_NSS/USART_CK/USART1_CK/TIMER13_CH0/SPI1_NSS/ADC_IN4, 15 PA5/SPI0_SCK/TIMER1_CH0/TIMER1_ETI/ADC_IN5, 16 PA6/SPI0_MISO/TIMER2_CH0/TIMER0_BKIN/TIMER15_CH0/EVENT_OUT/ADC_IN6, 17 PA7/SPI0_MOSI/TIMER2_CH1/TIMER13_CH0/TIMER0_CH0_ON/TIMER16_CH0/EVENT_OUT/ADC_IN7, 18 PB0/TIMER2_CH2/TIMER0_CH1_ON/USART1_RX/EVENT_OUT/ADC_IN8, 19 PB1/TIMER2_CH3/TIMER13_CH0/TIMER0_CH2_ON/SPI1_SCK/ADC_IN9, 20 PB2, 21 PB10/I2C0_SCL/I2C1_SCL/TIMER1_CH2/SPI1_IO2, 22 PB11/I2C0_SDA/I2CA_SDA/TIMER1_CH3/EVENT_OUT/SPI1_IO3, 23 Vss, 24 Vdd, 25 PB12/SPI0_NSS/SPI1_NSS/TIMER0_BKIN/I2C1_SMBA/EVENT_OUT, 26 PB13/SPI0_SCK/SPI1_SCK/TIMER0_CH0_ON, 27 PB14/SPI0_MISO/SPI1_MISO/TIMER0_CH1_ON/TIMER14_CH0, 28 PB15/SPI0_MOSI/SPI1_MOSI/TIMER0_CH2_ON/TIMER14_CH0_ON/TIMER14_CH1/RTC_REFIN/WKUP6, 29 PA8/USART0_CK/TIMER0_CH0/CK_OUT/USART1_TX/EVENT_OUT/CTC_SYNC, 30 PA9/USART0_TX/TIMER0_CH1/TIMER14_BKIN/I2C0_SCL, 31 PA10/USART0_RX/TIMER0_CH2/TIMER16_BKIN/I2C0_SDA, 32 PA11/USART0_CTS/TIMER0_CH3/EVENT_OUT/SPI1_IO2, 33 PA12/USART0_RTS/TIMER0_ETI/EVENT_OUT/SPI1_IO3, 34 PA13/IFRP_OUT/SWDIO/SPI1_MISO, 35 PF6/I2C0_SCL/I2C1_SCL, 36 PF7/I2C0_SDA/I2C1_SDA, 37 PA14/USART0_TX/USART1_TX/SWCLK/SPI1_MOSI, 38 PA15/SPI0_NSS/USART0_RX/USART1_RX/TIMER1_CH0/TIMER1_ETI/SPI1_NSS/EVENT_OUT, 39 PB3/SPI0_SCK/TIMER1_CH1/EVENT_OUT, 40 PB4/SPI0_MISO/TIMER2_CH0/EVENT_OUT, 41 PB5/SPI0_MOSI/I2C0_SMBA/TIMER15_BKIN/TIMER2_CH1/WKUP5, 42 PB6/I2C0_SCL/USART0_TX/TIMER15_CH0_ON, 43 PB7/I2C0_SDA/USART0_RX/TIMER16_CH0_ON, 44 BOOT0, 45 PB8/ISC0_SCL/TIMER15_CH0, 46 PB9/I2C0_SDA/IFRP_OUT/TIMER16_CH0/EVENT_OUT, 47 Vss, 48 Vdd

## HK32F103C8
designator Q*
仓库名称: 元件仓; 单位: 只; 加工方式: 贴片; 物料名称: HK32F103C8; 物料代码: *; 助记码: *; 备注: *; 规格型号: *
footprint LQFP  48
pins: 1 VBAT/S, 2 PC13/ I/O /TAMPERIN / RTCO /EXTIN13, 3 PC14/ I/O / OSC32_IN/EXTIN14, 4 PC15/ I/O /OSC32_OUT/EXTIN15, 5 PD0/  I/O /OSC_IN/, 6 PD1/ I/O  /OSC_OUT/, 7 NRST/ I/O , 8 VSSA/S/VREFN(double bounding), 9 VDDA/SVREFP(double bounding), 10 PA0/ I/O /ADC12_IN0 / TIM2_CH1_ETR / USART2_CTS / WKUP/EXTIN0, 11 PA1/ I/O  /ADC12_IN1 / TIM2_CH2 / USART2_RTS/EXTIN1, 12 PA2/ I/O /ADC12_IN2 / TIM2_CH3 / USART2_TX/EXTIN2, 13 PA3/ I/O /ADC12_IN3 / TIM2_CH4 / USART2_RX/EXTIN3, 14 PA4/ I/O /ADC12_IN4 / SPI_NSS / USART2_CK/EXTIN4, 15 PA5/ I/O ADC12_IN5 / SPI_SCK/EXTIN5, 16 PA6/ I/O /ADC12_IN6 / SPI_MISO / TIM3_CH1 / TIM1_BKIN/EXTIN6, 17 PA7/ I/O /ADC12_IN7 / SPI_MOSI / TIM3_CH2 /TIM1_CH1N/EXTIN7, 18 PB0/ I/O /ADC12_IN8 / TIM3_CH3 / TIM1_CH2N/EXTIN0, 19 PB1/ I/O /ADC12_IN9 / TIM3_CH4 / TIM1_CH3N/EXTIN, 20 PB2/ I/O /BOOT1, 21 PB10/ I/O /I2C2_SCL / USART3_TX / TIM2_CH3/EXTIN10, 22 PB11/ I/O /I2C2_SDA / USART3_RX / TIM2_CH4/EXTIN11, 23 VSS_1 /S, 24 VDD_1 /S, 25 PB12/ I/O TIM1_BKIN / SPI2_NSS / USART2_CK / I2C2_SMBA/EXTIN12, 26 PB13/ I/O /TIM1_CH1N / SPI2_SCK / USART2_CTS/EXTIN13, 27 PB14/ I/O/TIM1_CH2N / SPI2_MISO / USART2_RTS/EXTIN14, 28 PB15/ I/O /TIM1_CH3N / SPI2_MOSI/EXTIN15, 29 PA8/ I/O /TIM1_CH1 / USART1_CK / MCO/EXTIN8, 30 PA9/ I/O /TIM1_CH2 / USART1_TX/EXTIN9, 31 PA10/ I/O /TIM1_CH3 / USART1_RX/EXTIN10, 32 PA11/ I/O /TIM1_CH4 / USART1_CTS / USBDM / CANRX/EXTIN11, 33 PA12/ I/O /TIM1_ETR / USART1_RTS / USBDP / CANTX/EXTIN12, 34 PA13/ I/O /JTMS/SWDIO/EXTIN13, 35 VSS_2/ S, 36 VDD_2/ S, 37 PA14/ I/O /JTCK/SWCLK /EXTIN14, 38 PA15/ I/O /JTDI/ TIM2_CH1_ETR / SPI1_NSS/EXTIN15, 39 PB3/ I/O /JTDO/TRACESWO / TIM2_CH2 / SPI1_SCK /EXTIN3, 40 PB4/ I/O /NJTRST/ TIM3_CH1 / SPI1_MISO /EXTIN4, 41 PB5/ I/O /I2C1_SMBA / TIM3_CH2 / SPI1_MOSI /EXTIN5, 42 PB6/ I/O /I2C1_SCL / TIM4_CH1 / USART1_TX/ EXTIN6, 43 PB7/ I/O /I2C1_SDA / TIM4_CH2 / USART1_RX /EXTIN7, 44 BOOT0/ I, 45 PB8/ I/O /TIM4_CH3 / I2C1_SCL / CANRX /EXTIN8, 46 PB9/ I/O /TIM4_CH4 / I2C1_SDA / CANTX /EXTIN9, 47  VSS_3 /S, 48 VDD_3 /S

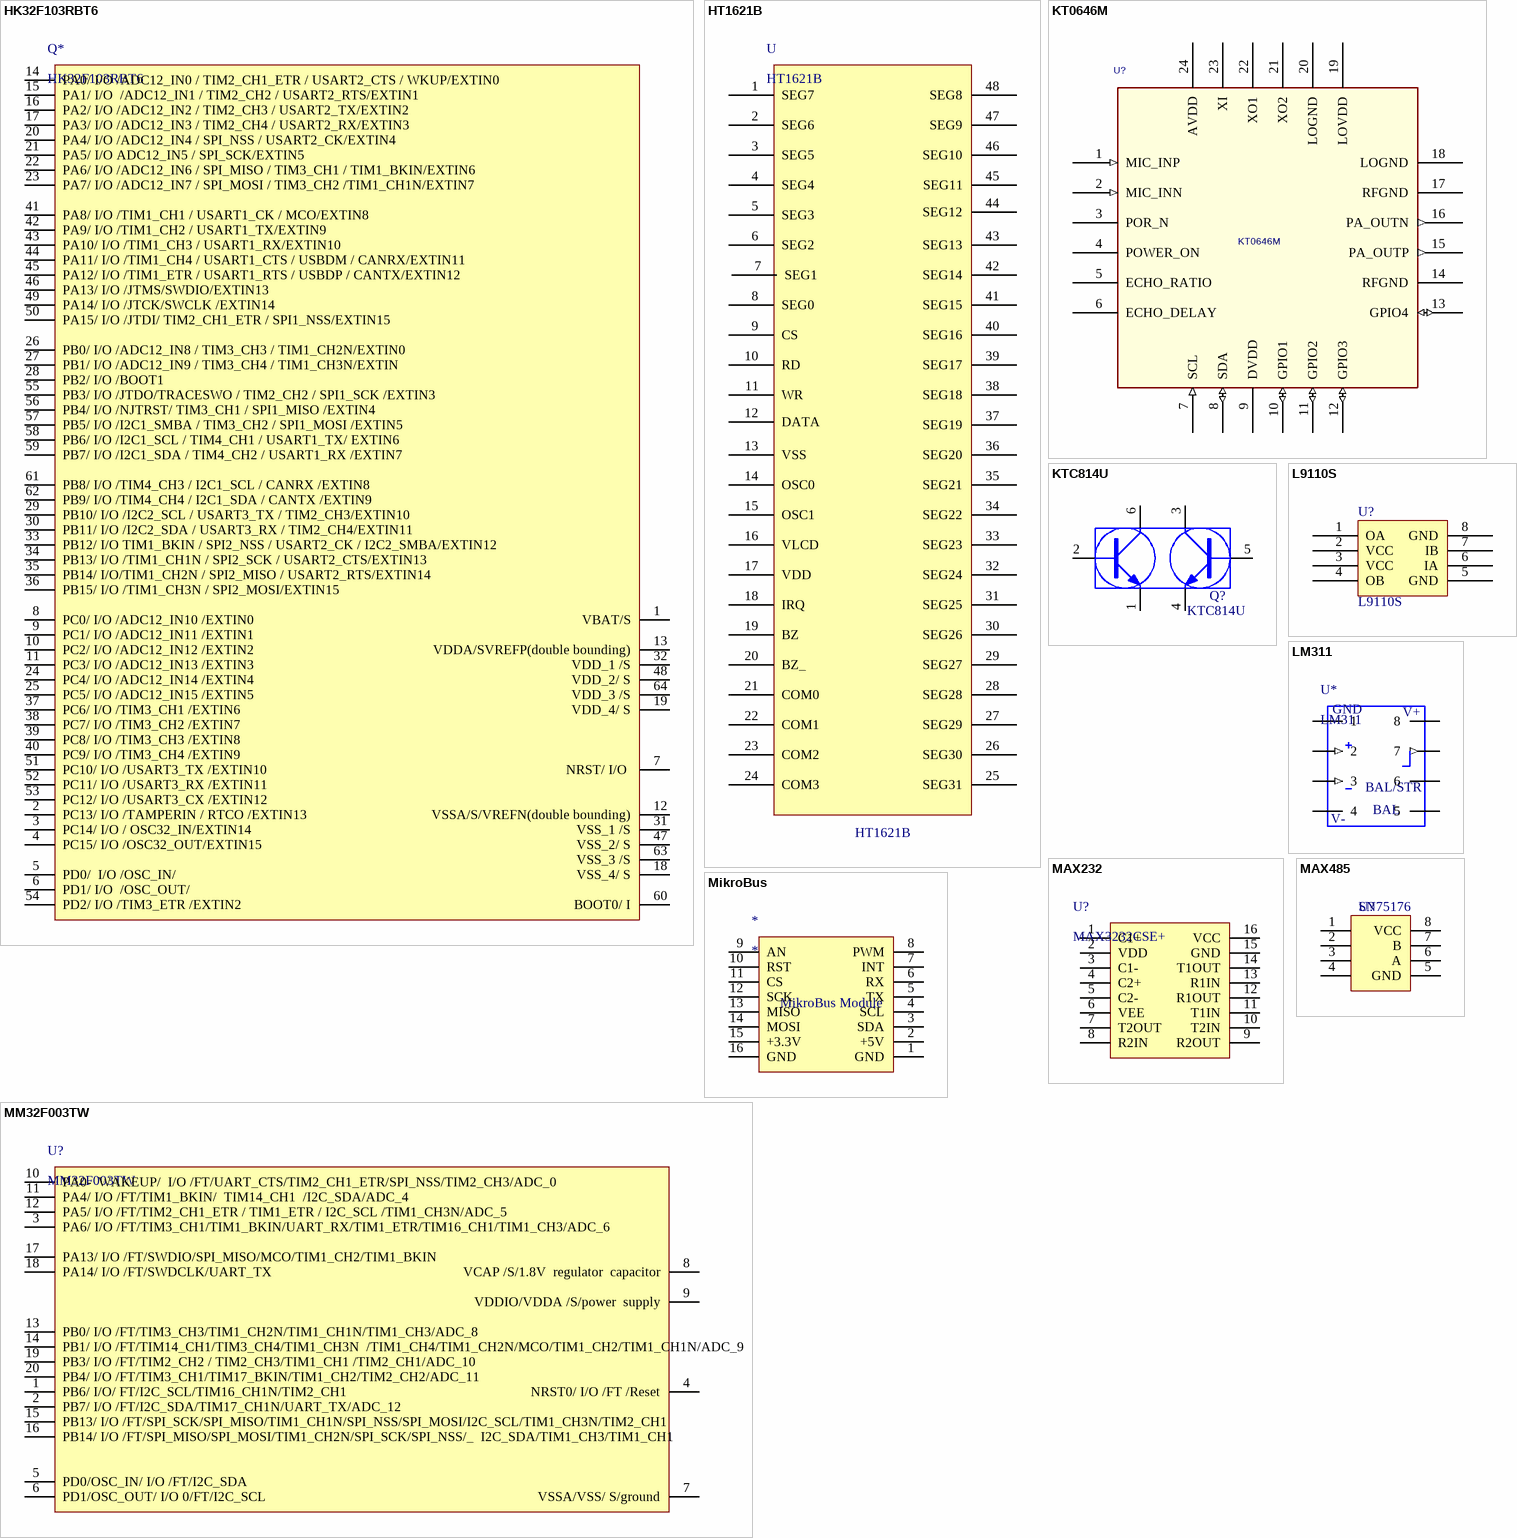
[diagram p3: symbols HK32F103RBT6 to MM32F003TW]

## HK32F103RBT6
designator Q*
单位: 只; 加工方式: 贴片; 仓库名称: 元件仓; 物料名称: HK32F103RBT6; 物料代码: *; 规格型号: *; 助记码: *
footprint LQFP  64
pins: 1 VBAT/S, 2 PC13/ I/O /TAMPERIN / RTCO /EXTIN13, 3 PC14/ I/O / OSC32_IN/EXTIN14, 4 PC15/ I/O /OSC32_OUT/EXTIN15, 5 PD0/  I/O /OSC_IN/, 6 PD1/ I/O  /OSC_OUT/, 7 NRST/ I/O , 8 PC0/ I/O /ADC12_IN10 /EXTIN0, 9 PC1/ I/O /ADC12_IN11 /EXTIN1, 10 PC2/ I/O /ADC12_IN12 /EXTIN2, 11 PC3/ I/O /ADC12_IN13 /EXTIN3, 12 VSSA/S/VREFN(double bounding), 13 VDDA/SVREFP(double bounding), 14 PA0/ I/O /ADC12_IN0 / TIM2_CH1_ETR / USART2_CTS / WKUP/EXTIN0, 15 PA1/ I/O  /ADC12_IN1 / TIM2_CH2 / USART2_RTS/EXTIN1, 16 PA2/ I/O /ADC12_IN2 / TIM2_CH3 / USART2_TX/EXTIN2, 17 PA3/ I/O /ADC12_IN3 / TIM2_CH4 / USART2_RX/EXTIN3, 18 VSS_4/ S, 19 VDD_4/ S, 20 PA4/ I/O /ADC12_IN4 / SPI_NSS / USART2_CK/EXTIN4, 21 PA5/ I/O ADC12_IN5 / SPI_SCK/EXTIN5, 22 PA6/ I/O /ADC12_IN6 / SPI_MISO / TIM3_CH1 / TIM1_BKIN/EXTIN6, 23 PA7/ I/O /ADC12_IN7 / SPI_MOSI / TIM3_CH2 /TIM1_CH1N/EXTIN7, 24 PC4/ I/O /ADC12_IN14 /EXTIN4, 25 PC5/ I/O /ADC12_IN15 /EXTIN5, 26 PB0/ I/O /ADC12_IN8 / TIM3_CH3 / TIM1_CH2N/EXTIN0, 27 PB1/ I/O /ADC12_IN9 / TIM3_CH4 / TIM1_CH3N/EXTIN, 28 PB2/ I/O /BOOT1, 29 PB10/ I/O /I2C2_SCL / USART3_TX / TIM2_CH3/EXTIN10, 30 PB11/ I/O /I2C2_SDA / USART3_RX / TIM2_CH4/EXTIN11, 31 VSS_1 /S, 32 VDD_1 /S, 33 PB12/ I/O TIM1_BKIN / SPI2_NSS / USART2_CK / I2C2_SMBA/EXTIN12, 34 PB13/ I/O /TIM1_CH1N / SPI2_SCK / USART2_CTS/EXTIN13, 35 PB14/ I/O/TIM1_CH2N / SPI2_MISO / USART2_RTS/EXTIN14, 36 PB15/ I/O /TIM1_CH3N / SPI2_MOSI/EXTIN15, 37 PC6/ I/O /TIM3_CH1 /EXTIN6, 38 PC7/ I/O /TIM3_CH2 /EXTIN7, 39 PC8/ I/O /TIM3_CH3 /EXTIN8, 40 PC9/ I/O /TIM3_CH4 /EXTIN9, 41 PA8/ I/O /TIM1_CH1 / USART1_CK / MCO/EXTIN8, 42 PA9/ I/O /TIM1_CH2 / USART1_TX/EXTIN9, 43 PA10/ I/O /TIM1_CH3 / USART1_RX/EXTIN10, 44 PA11/ I/O /TIM1_CH4 / USART1_CTS / USBDM / CANRX/EXTIN11, 45 PA12/ I/O /TIM1_ETR / USART1_RTS / USBDP / CANTX/EXTIN12, 46 PA13/ I/O /JTMS/SWDIO/EXTIN13, 47 VSS_2/ S, 48 VDD_2/ S, 49 PA14/ I/O /JTCK/SWCLK /EXTIN14, 50 PA15/ I/O /JTDI/ TIM2_CH1_ETR / SPI1_NSS/EXTIN15, 51 PC10/ I/O /USART3_TX /EXTIN10, 52 PC11/ I/O /USART3_RX /EXTIN11, 53 PC12/ I/O /USART3_CX /EXTIN12, 54 PD2/ I/O /TIM3_ETR /EXTIN2, 55 PB3/ I/O /JTDO/TRACESWO / TIM2_CH2 / SPI1_SCK /EXTIN3, 56 PB4/ I/O /NJTRST/ TIM3_CH1 / SPI1_MISO /EXTIN4, 57 PB5/ I/O /I2C1_SMBA / TIM3_CH2 / SPI1_MOSI /EXTIN5, 58 PB6/ I/O /I2C1_SCL / TIM4_CH1 / USART1_TX/ EXTIN6, 59 PB7/ I/O /I2C1_SDA / TIM4_CH2 / USART1_RX /EXTIN7, 60 BOOT0/ I, 61 PB8/ I/O /TIM4_CH3 / I2C1_SCL / CANRX /EXTIN8, 62 PB9/ I/O /TIM4_CH4 / I2C1_SDA / CANTX /EXTIN9, 63  VSS_3 /S, 64 VDD_3 /S

## HT1621B
designator U
footprint SSOP-48
pins: 1 SEG7, 2 SEG6, 3 SEG5, 4 SEG4, 5 SEG3, 6 SEG2, 7 SEG1, 8 SEG0, 9 CS, 10 RD, 11 WR, 12 DATA, 13 VSS, 14 OSC0, 15 OSC1, 16 VLCD, 17 VDD, 18 IRQ, 19 BZ, 20 BZ_, 21 COM0, 22 COM1, 23 COM2, 24 COM3, 25 SEG31, 26 SEG30, 27 SEG29, 28 SEG28, 29 SEG27, 30 SEG26, 31 SEG25, 32 SEG24, 33 SEG23, 34 SEG22, 35 SEG21, 36 SEG20, 37 SEG19, 38 SEG18, 39 SEG17, 40 SEG16, 41 SEG15, 42 SEG14, 43 SEG13, 44 SEG12, 45 SEG11, 46 SEG10, 47 SEG9, 48 SEG8

## KT0646M
designator U?
footprint QFN24-4X4
footprint QFN24-4X4
footprint QFN24
pins: 1 MIC_INP (in), 2 MIC_INN (in), 3 POR_N, 4 POWER_ON, 5 ECHO_RATIO, 6 ECHO_DELAY, 7 SCL (in), 8 SDA (io), 9 DVDD (power), 10 GPIO1 (io), 11 GPIO2 (io), 12 GPIO3 (io), 13 GPIO4 (io), 14 RFGND, 15 PA_OUTP (out), 16 PA_OUTN (out), 17 RFGND (power), 18 LOGND, 19 LOVDD (power), 20 LOGND, 21 XO2, 22 XO1 (power), 23 XI, 24 AVDD (power), 25 GND (power) hidden to GND

## KTC814U
designator Q?
仓库名称: 元件仓; 单位: 只; 物料名称: *; 物料代码: *; 助记码: *; 规格型号: *; 备注: *; 加工方式: *
footprint DFN-6 (SGM4157)
pins: 1 E, 2 B, 3 C, 4 E, 5 B, 6 C

## L9110S
designator U?
仓库名称: 元件仓; 单位: 只; 加工方式: 贴片; 物料代码: *; 物料名称: *; 助记码: *; 规格型号: *; 备注: *
footprint SOP 8
pins: 1 OA, 2 VCC, 3 VCC, 4 OB, 5 GND, 6 IA, 7 IB, 8 GND

## LM311
designator U*
LM311贴片IC; 物料代码: 3.01.04.02.0002; 助记码: LM311TPIC; 仓库名称: 元件仓; 单位: 个; 加工方式: 贴片; 物料名称: LM311贴片IC; 规格型号: *; 备注: *
footprint SOP 8
pins: 1, 2 (in), 3 (in), 4, 5 (hiz), 6 (hiz), 7 (out), 8 (power)
text: GND; V+; BAL/STR; BAL; V-

## MAX232
designator U?, comment MAX3232CSE+
MAX3232CSE+ 贴片IC; 物料代码: 3.01.04.02.0018; 规格型号: SOP-16; 助记码: MAX3232CSE+ TPIC; 仓库名称: 元件仓; 单位: 只; 加工方式: 贴片; 物料名称: MAX3232CSE+ 贴片IC
footprint SOP 16
pins: 1 C1+, 2 VDD (power), 3 C1-, 4 C2+, 5 C2-, 6 VEE (power), 7 T2OUT (power), 8 R2IN (oe), 9 R2OUT (oe), 10 T2IN (oe), 11 T1IN (oe), 12 R1OUT (oe), 13 R1IN (oe), 14 T1OUT (oe), 15 GND (power), 16 VCC (power)

## MAX485
designator U?, comment SN75176
SN75176BDR 贴片IC; 物料代码: 3.01.04.02.0071; 仓库名称: 元件仓; 助记码: SN75176BDR TPIC; 单位: 只; 规格型号: SOP-8; 加工方式: 贴片; 物料名称: SN75176BDR 贴片IC; 备注: *
footprint SOP 8
pins: 1, 2, 3, 4, 5 GND, 6 A, 7 B, 8 VCC

## MikroBus
designator *
pins: 1 GND, 2 +5V, 3 SDA, 4 SCL, 5 TX, 6 RX, 7 INT, 8 PWM, 9 AN, 10 RST, 11 CS, 12 SCK, 13 MISO, 14 MOSI, 15 +3.3V, 16 GND
text: MikroBus Module

## MM32F003TW
designator U?
单位: 只; 仓库名称: 元件仓; 加工方式: 贴片; 物料名称: MM32F003TW; 物料代码: *; 规格型号: *; 助记码: *; 备注: *
footprint TSSOP 20
pins: 1 PB6/ I/O/ FT/I2C_SCL/TIM16_CH1N/TIM2_CH1, 2 PB7/ I/O /FT/I2C_SDA/TIM17_CH1N/UART_TX/ADC_12, 3 PA6/ I/O /FT/TIM3_CH1/TIM1_BKIN/UART_RX/TIM1_ETR/TIM16_CH1/TIM1_CH3/ADC_6, 4 NRST0/ I/O /FT /Reset, 5 PD0/OSC_IN/ I/O /FT/I2C_SDA, 6 PD1/OSC_OUT/ I/O 0/FT/I2C_SCL, 7 VSSA/VSS/ S/ground, 8 VCAP /S/1.8V  regulator  capacitor, 9 VDDIO/VDDA /S/power  supply, 10 PA0-  WAKEUP/  I/O /FT/UART_CTS/TIM2_CH1_ETR/SPI_NSS/TIM2_CH3/ADC_0, 11 PA4/ I/O /FT/TIM1_BKIN/  TIM14_CH1  /I2C_SDA/ADC_4, 12 PA5/ I/O /FT/TIM2_CH1_ETR / TIM1_ETR / I2C_SCL /TIM1_CH3N/ADC_5, 13 PB0/ I/O /FT/TIM3_CH3/TIM1_CH2N/TIM1_CH1N/TIM1_CH3/ADC_8, 14 PB1/ I/O /FT/TIM14_CH1/TIM3_CH4/TIM1_CH3N  /TIM1_CH4/TIM1_CH2N/MCO/TIM1_CH2/TIM1_CH1N/ADC_9, 15 PB13/ I/O /FT/SPI_SCK/SPI_MISO/TIM1_CH1N/SPI_NSS/SPI_MOSI/I2C_SCL/TIM1_CH3N/TIM2_CH1, 16 PB14/ I/O /FT/SPI_MISO/SPI_MOSI/TIM1_CH2N/SPI_SCK/SPI_NSS/_  I2C_SDA/TIM1_CH3/TIM1_CH1, 17 PA13/ I/O /FT/SWDIO/SPI_MISO/MCO/TIM1_CH2/TIM1_BKIN, 18 PA14/ I/O /FT/SWDCLK/UART_TX, 19 PB3/ I/O /FT/TIM2_CH2 / TIM2_CH3/TIM1_CH1 /TIM2_CH1/ADC_10, 20 PB4/ I/O /FT/TIM3_CH1/TIM17_BKIN/TIM1_CH2/TIM2_CH2/ADC_11

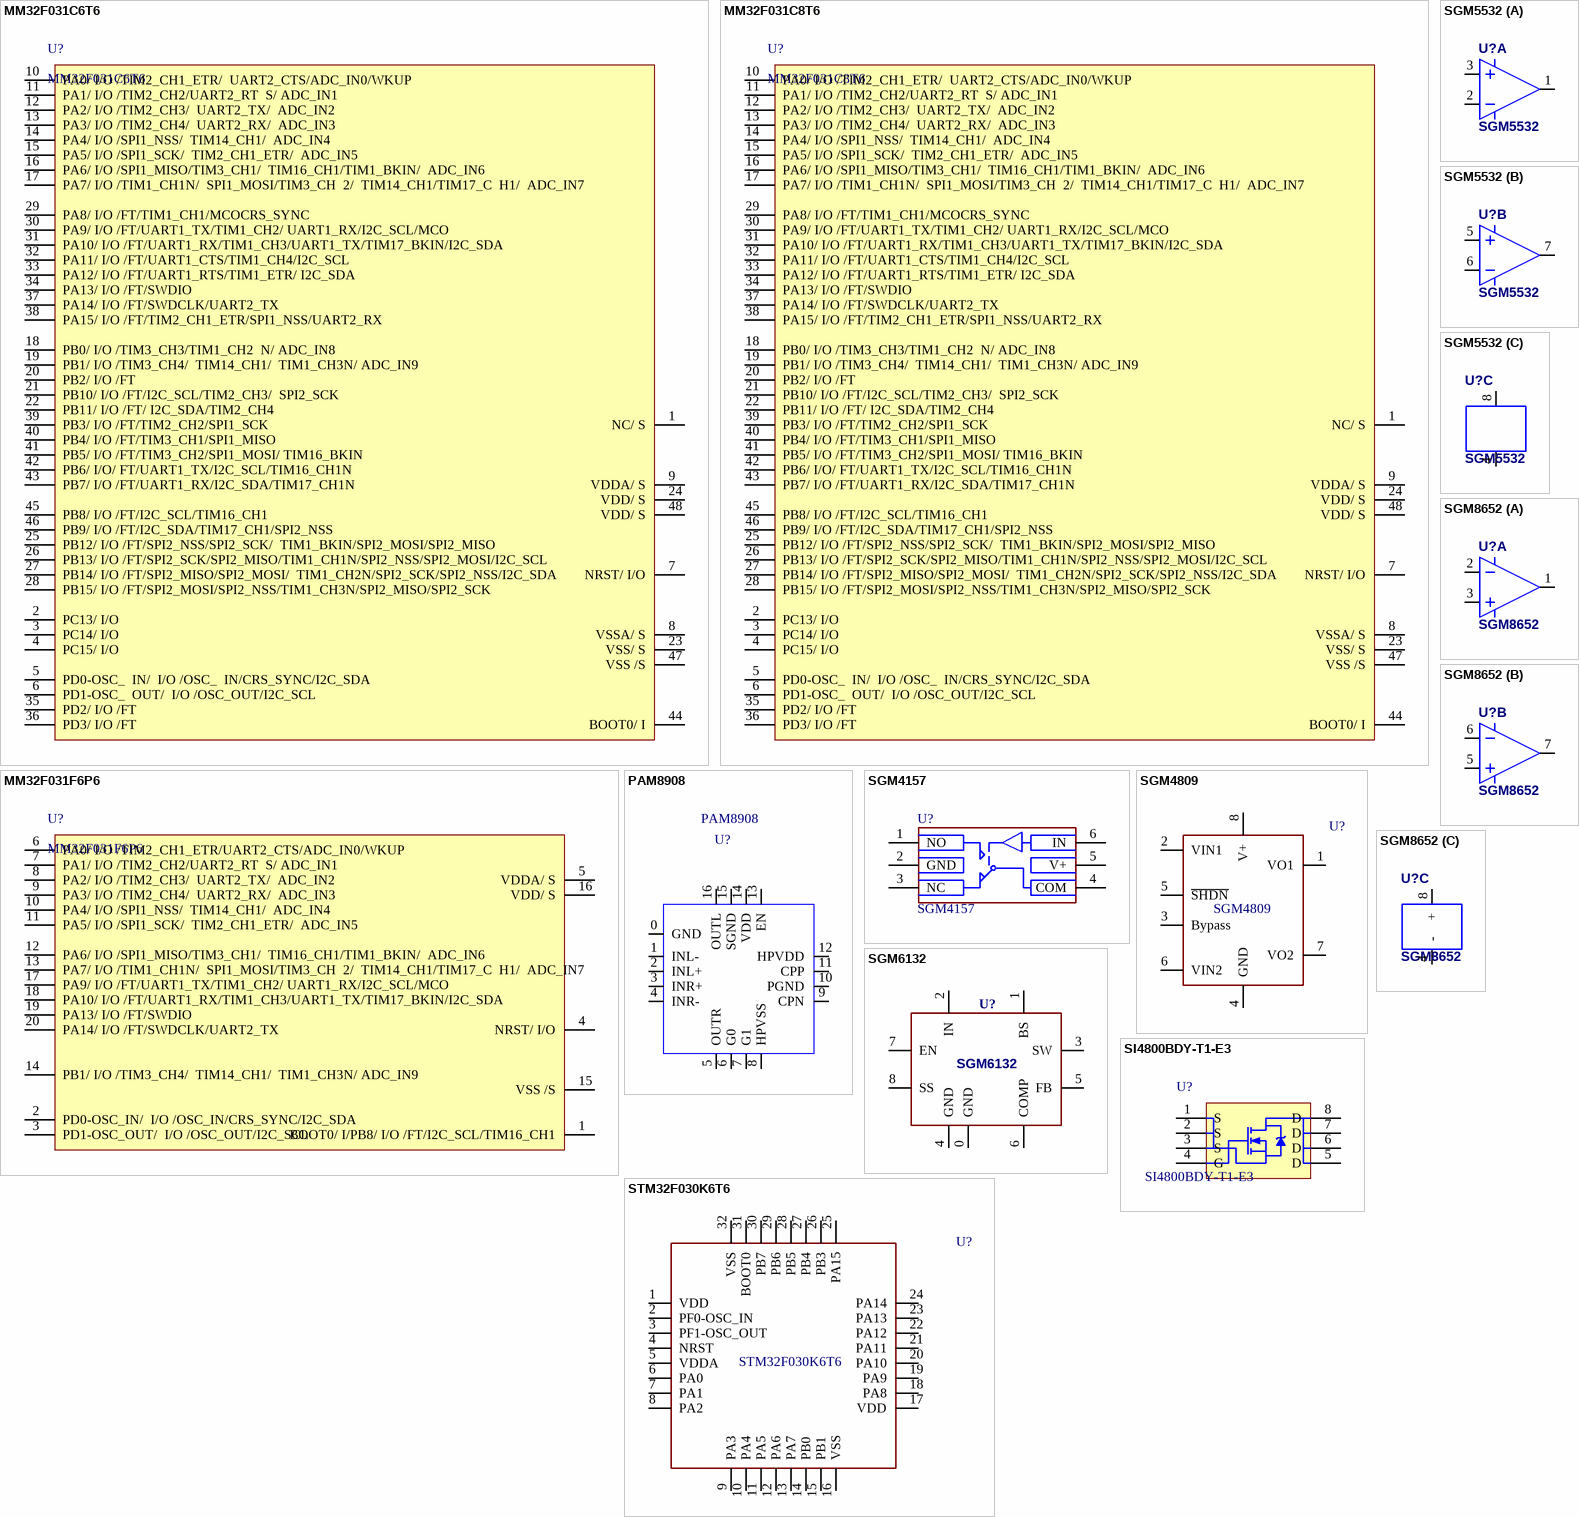
[diagram p4: symbols MM32F031C6T6 to STM32F030K6T6]

## MM32F031C6T6
designator U?
仓库名称: 元件仓; 单位: 只; 加工方式: 贴片; 物料名称: MM32F031C6T6; 物料代码: *; 规格型号: *; 助记码: *
footprint LQFP  48
pins: 1 NC/ S, 2 PC13/ I/O, 3 PC14/ I/O, 4 PC15/ I/O, 5 PD0-OSC_  IN/  I/O /OSC_  IN/CRS_SYNC/I2C_SDA, 6 PD1-OSC_  OUT/  I/O /OSC_OUT/I2C_SCL , 7 NRST/ I/O, 8 VSSA/ S, 9 VDDA/ S, 10 PA0/ I/O /TIM2_CH1_ETR/  UART2_CTS/ADC_IN0/WKUP, 11 PA1/ I/O /TIM2_CH2/UART2_RT  S/ ADC_IN1, 12 PA2/ I/O /TIM2_CH3/  UART2_TX/  ADC_IN2, 13 PA3/ I/O /TIM2_CH4/  UART2_RX/  ADC_IN3, 14 PA4/ I/O /SPI1_NSS/  TIM14_CH1/  ADC_IN4, 15 PA5/ I/O /SPI1_SCK/  TIM2_CH1_ETR/  ADC_IN5, 16 PA6/ I/O /SPI1_MISO/TIM3_CH1/  TIM16_CH1/TIM1_BKIN/  ADC_IN6, 17 PA7/ I/O /TIM1_CH1N/  SPI1_MOSI/TIM3_CH  2/  TIM14_CH1/TIM17_C  H1/  ADC_IN7, 18 PB0/ I/O /TIM3_CH3/TIM1_CH2  N/ ADC_IN8, 19 PB1/ I/O /TIM3_CH4/  TIM14_CH1/  TIM1_CH3N/ ADC_IN9, 20 PB2/ I/O /FT, 21 PB10/ I/O /FT/I2C_SCL/TIM2_CH3/  SPI2_SCK, 22 PB11/ I/O /FT/ I2C_SDA/TIM2_CH4, 23 VSS/ S, 24 VDD/ S, 25 PB12/ I/O /FT/SPI2_NSS/SPI2_SCK/  TIM1_BKIN/SPI2_MOSI/SPI2_MISO, 26 PB13/ I/O /FT/SPI2_SCK/SPI2_MISO/TIM1_CH1N/SPI2_NSS/SPI2_MOSI/I2C_SCL, 27 PB14/ I/O /FT/SPI2_MISO/SPI2_MOSI/  TIM1_CH2N/SPI2_SCK/SPI2_NSS/I2C_SDA, 28 PB15/ I/O /FT/SPI2_MOSI/SPI2_NSS/TIM1_CH3N/SPI2_MISO/SPI2_SCK, 29 PA8/ I/O /FT/TIM1_CH1/MCOCRS_SYNC, 30 PA9/ I/O /FT/UART1_TX/TIM1_CH2/ UART1_RX/I2C_SCL/MCO, 31 PA10/ I/O /FT/UART1_RX/TIM1_CH3/UART1_TX/TIM17_BKIN/I2C_SDA, 32 PA11/ I/O /FT/UART1_CTS/TIM1_CH4/I2C_SCL, 33 PA12/ I/O /FT/UART1_RTS/TIM1_ETR/ I2C_SDA, 34 PA13/ I/O /FT/SWDIO, 35 PD2/ I/O /FT, 36 PD3/ I/O /FT, 37 PA14/ I/O /FT/SWDCLK/UART2_TX, 38 PA15/ I/O /FT/TIM2_CH1_ETR/SPI1_NSS/UART2_RX, 39 PB3/ I/O /FT/TIM2_CH2/SPI1_SCK, 40 PB4/ I/O /FT/TIM3_CH1/SPI1_MISO, 41 PB5/ I/O /FT/TIM3_CH2/SPI1_MOSI/ TIM16_BKIN, 42 PB6/ I/O/ FT/UART1_TX/I2C_SCL/TIM16_CH1N, 43 PB7/ I/O /FT/UART1_RX/I2C_SDA/TIM17_CH1N, 44 BOOT0/ I, 45 PB8/ I/O /FT/I2C_SCL/TIM16_CH1, 46 PB9/ I/O /FT/I2C_SDA/TIM17_CH1/SPI2_NSS, 47 VSS /S, 48 VDD/ S

## MM32F031C8T6
designator U?
单位: 只; 仓库名称: 元件仓; 加工方式: 贴片; 物料名称: MM32F031C8T6
footprint LQFP  48
pins: 1 NC/ S, 2 PC13/ I/O, 3 PC14/ I/O, 4 PC15/ I/O, 5 PD0-OSC_  IN/  I/O /OSC_  IN/CRS_SYNC/I2C_SDA, 6 PD1-OSC_  OUT/  I/O /OSC_OUT/I2C_SCL , 7 NRST/ I/O, 8 VSSA/ S, 9 VDDA/ S, 10 PA0/ I/O /TIM2_CH1_ETR/  UART2_CTS/ADC_IN0/WKUP, 11 PA1/ I/O /TIM2_CH2/UART2_RT  S/ ADC_IN1, 12 PA2/ I/O /TIM2_CH3/  UART2_TX/  ADC_IN2, 13 PA3/ I/O /TIM2_CH4/  UART2_RX/  ADC_IN3, 14 PA4/ I/O /SPI1_NSS/  TIM14_CH1/  ADC_IN4, 15 PA5/ I/O /SPI1_SCK/  TIM2_CH1_ETR/  ADC_IN5, 16 PA6/ I/O /SPI1_MISO/TIM3_CH1/  TIM16_CH1/TIM1_BKIN/  ADC_IN6, 17 PA7/ I/O /TIM1_CH1N/  SPI1_MOSI/TIM3_CH  2/  TIM14_CH1/TIM17_C  H1/  ADC_IN7, 18 PB0/ I/O /TIM3_CH3/TIM1_CH2  N/ ADC_IN8, 19 PB1/ I/O /TIM3_CH4/  TIM14_CH1/  TIM1_CH3N/ ADC_IN9, 20 PB2/ I/O /FT, 21 PB10/ I/O /FT/I2C_SCL/TIM2_CH3/  SPI2_SCK, 22 PB11/ I/O /FT/ I2C_SDA/TIM2_CH4, 23 VSS/ S, 24 VDD/ S, 25 PB12/ I/O /FT/SPI2_NSS/SPI2_SCK/  TIM1_BKIN/SPI2_MOSI/SPI2_MISO, 26 PB13/ I/O /FT/SPI2_SCK/SPI2_MISO/TIM1_CH1N/SPI2_NSS/SPI2_MOSI/I2C_SCL, 27 PB14/ I/O /FT/SPI2_MISO/SPI2_MOSI/  TIM1_CH2N/SPI2_SCK/SPI2_NSS/I2C_SDA, 28 PB15/ I/O /FT/SPI2_MOSI/SPI2_NSS/TIM1_CH3N/SPI2_MISO/SPI2_SCK, 29 PA8/ I/O /FT/TIM1_CH1/MCOCRS_SYNC, 30 PA9/ I/O /FT/UART1_TX/TIM1_CH2/ UART1_RX/I2C_SCL/MCO, 31 PA10/ I/O /FT/UART1_RX/TIM1_CH3/UART1_TX/TIM17_BKIN/I2C_SDA, 32 PA11/ I/O /FT/UART1_CTS/TIM1_CH4/I2C_SCL, 33 PA12/ I/O /FT/UART1_RTS/TIM1_ETR/ I2C_SDA, 34 PA13/ I/O /FT/SWDIO, 35 PD2/ I/O /FT, 36 PD3/ I/O /FT, 37 PA14/ I/O /FT/SWDCLK/UART2_TX, 38 PA15/ I/O /FT/TIM2_CH1_ETR/SPI1_NSS/UART2_RX, 39 PB3/ I/O /FT/TIM2_CH2/SPI1_SCK, 40 PB4/ I/O /FT/TIM3_CH1/SPI1_MISO, 41 PB5/ I/O /FT/TIM3_CH2/SPI1_MOSI/ TIM16_BKIN, 42 PB6/ I/O/ FT/UART1_TX/I2C_SCL/TIM16_CH1N, 43 PB7/ I/O /FT/UART1_RX/I2C_SDA/TIM17_CH1N, 44 BOOT0/ I, 45 PB8/ I/O /FT/I2C_SCL/TIM16_CH1, 46 PB9/ I/O /FT/I2C_SDA/TIM17_CH1/SPI2_NSS, 47 VSS /S, 48 VDD/ S

## MM32F031F6P6
designator U?
仓库名称: 元件仓; 单位: 只; 加工方式: 贴片; 物料名称: MM32F031F6P6
footprint TSSOP 20
pins: 1 BOOT0/ I/PB8/ I/O /FT/I2C_SCL/TIM16_CH1, 2 PD0-OSC_IN/  I/O /OSC_IN/CRS_SYNC/I2C_SDA, 3 PD1-OSC_OUT/  I/O /OSC_OUT/I2C_SCL , 4 NRST/ I/O, 5 VDDA/ S, 6 PA0/ I/O /TIM2_CH1_ETR/UART2_CTS/ADC_IN0/WKUP, 7 PA1/ I/O /TIM2_CH2/UART2_RT  S/ ADC_IN1, 8 PA2/ I/O /TIM2_CH3/  UART2_TX/  ADC_IN2, 9 PA3/ I/O /TIM2_CH4/  UART2_RX/  ADC_IN3, 10 PA4/ I/O /SPI1_NSS/  TIM14_CH1/  ADC_IN4, 11 PA5/ I/O /SPI1_SCK/  TIM2_CH1_ETR/  ADC_IN5, 12 PA6/ I/O /SPI1_MISO/TIM3_CH1/  TIM16_CH1/TIM1_BKIN/  ADC_IN6, 13 PA7/ I/O /TIM1_CH1N/  SPI1_MOSI/TIM3_CH  2/  TIM14_CH1/TIM17_C  H1/  ADC_IN7, 14 PB1/ I/O /TIM3_CH4/  TIM14_CH1/  TIM1_CH3N/ ADC_IN9, 15 VSS /S, 16 VDD/ S, 17 PA9/ I/O /FT/UART1_TX/TIM1_CH2/ UART1_RX/I2C_SCL/MCO, 18 PA10/ I/O /FT/UART1_RX/TIM1_CH3/UART1_TX/TIM17_BKIN/I2C_SDA, 19 PA13/ I/O /FT/SWDIO, 20 PA14/ I/O /FT/SWDCLK/UART2_TX

## PAM8908
designator U?
仓库名称: 元件仓; 单位: 只; 加工方式: 贴片; 物料名称: *; 物料代码: *; 助记码: *; 规格型号: *; 备注: *
footprint TQFN 16
pins: 0 GND, 1 INL-, 2 INL+, 3 INR+, 4 INR-, 5 OUTR, 6 G0, 7 G1, 8 HPVSS, 9 CPN, 10 PGND, 11 CPP, 12 HPVDD, 13 EN, 14 VDD, 15 SGND, 16 OUTL

## SGM4157
designator U?
加工方式: 贴片; 物料名称: *; 物料代码: *; 助记码: *; 规格型号: *; 仓库名称: *; 单位: *
footprint DFN-6 (SGM4157)
pins: 1 NO, 2 GND, 3 NC, 4 COM, 5 V+, 6 IN

## SGM4809
designator U?
MSOP-8; 仓库名称: 元件仓; 单位: 只; 加工方式: 贴片; 物料名称: *; 物料代码: *; 助记码: *; 规格型号: *; 备注: *
footprint MSOP-8 (SGM4809)
pins: 1 VO1, 2 VIN1, 3 Bypass, 4 GND, 5 ~{SHDN}, 6 VIN2, 7 VO2, 8 V+

## SGM5532
designator U?
SGM5532YS8G/TR贴片IC; 物料代码: 3.01.04.02.0083; 助记码: SGM5532YS8G/TRTPIC; 规格型号: SOP8; 仓库名称: 元件仓; 单位: 只; 加工方式: 贴片; 物料名称: SGM5532YS8G/TR贴片IC; 备注: *
footprint SOP 8
part A pins: 1, 2, 3
part B pins: 5, 6, 7
part C pins: 4, 8

## SGM6132
designator U?
SOIC 8; 仓库名称: 元件仓; 单位: 只; 加工方式: 贴片; 物料代码: *; 物料名称: *; 助记码: *; 规格型号: *; 备注: *
footprint SOIC 8
pins: 0 GND, 1 BS, 2 IN, 3 SW, 4 GND, 5 FB, 6 COMP, 7 EN, 8 SS

## SGM8652
designator U?
规格型号: SOP8; 仓库名称: 元件仓; 单位: 只; 加工方式: 贴片; 备注: *
footprint SOP 8
part A pins: 1 OUT, 2 -, 3 +
part B pins: 5 +, 6 -, 7 OUT
part C pins: 4 -, 8 +

## SI4800BDY-T1-E3
designator U?
N-Channel Reduced Qg, Fast Switching MOSFET; 仓库名称: 元件仓; 单位: 只; 加工方式: 贴片; 物料名称: *; 物料代码: *; 助记码: *; 规格型号: *; 备注: *
footprint SOP 8
pins: 1 S, 2 S, 3 S, 4 G, 5 D, 6 D, 7 D, 8 D

## STM32F030K6T6
designator U?
LQFP32; 仓库名称: 元件仓; 单位: 只; 加工方式: 贴片; 物料名称: *; 物料代码: *; 助记码: *; 规格型号: *; 备注: *
footprint LQFP  32 7X7 (32脚，体宽7x7mm，脚距0.8mm)
pins: 1 VDD, 2 PF0-OSC_IN, 3 PF1-OSC_OUT, 4 NRST, 5 VDDA, 6 PA0, 7 PA1, 8 PA2, 9 PA3, 10 PA4, 11 PA5, 12 PA6, 13 PA7, 14 PB0, 15 PB1, 16 VSS, 17 VDD, 18 PA8, 19 PA9, 20 PA10, 21 PA11, 22 PA12, 23 PA13, 24 PA14, 25 PA15, 26 PB3, 27 PB4, 28 PB5, 29 PB6, 30 PB7, 31 BOOT0, 32 VSS

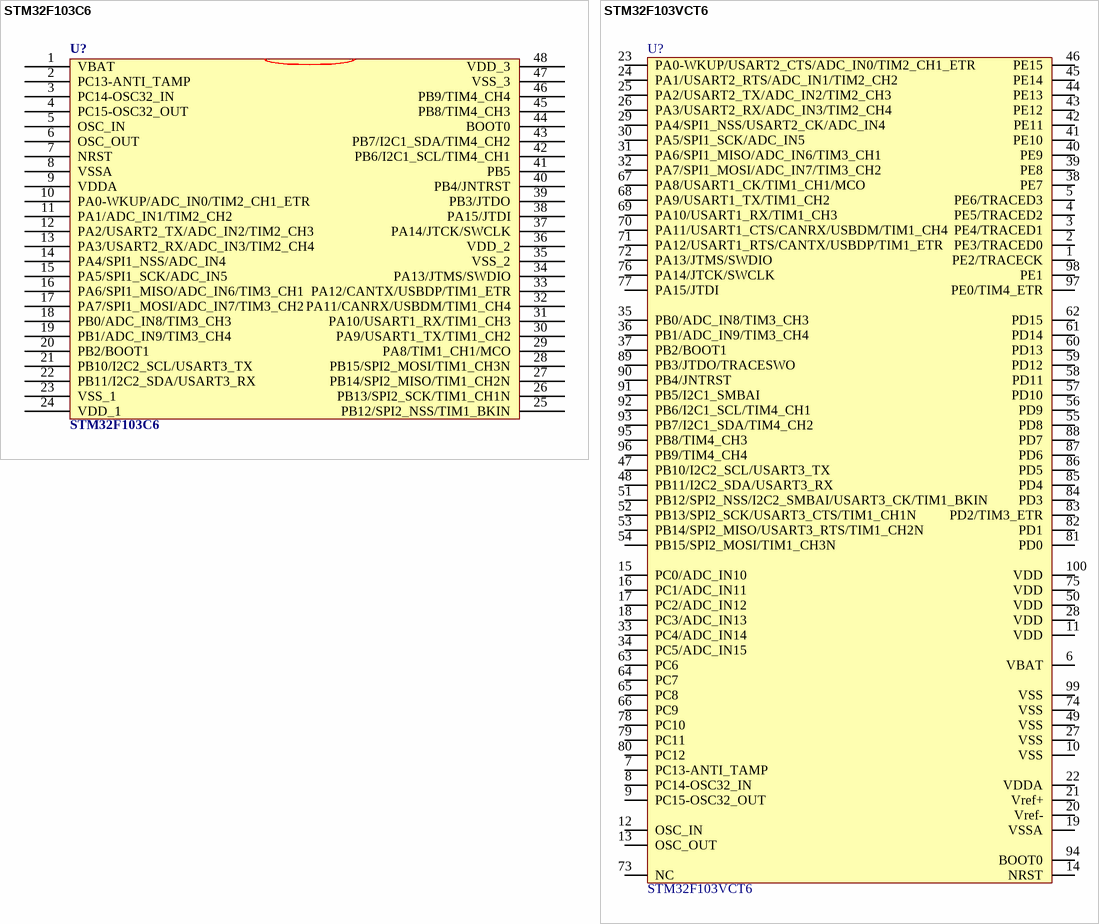
[diagram p5: symbols STM32F103C6 to STM32F103VCT6]

## STM32F103C6
designator U?
LQFP48S; 单位: 只; 仓库名称: 元件仓; 加工方式: 贴片; 物料名称: *; 物料代码: *; 助记码: *; 规格型号: *; 备注: *
footprint LQFP  48
pins: 1 VBAT, 2 PC13-ANTI_TAMP, 3 PC14-OSC32_IN, 4 PC15-OSC32_OUT, 5 OSC_IN, 6 OSC_OUT, 7 NRST, 8 VSSA, 9 VDDA, 10 PA0-WKUP/ADC_IN0/TIM2_CH1_ETR, 11 PA1/ADC_IN1/TIM2_CH2, 12 PA2/USART2_TX/ADC_IN2/TIM2_CH3, 13 PA3/USART2_RX/ADC_IN3/TIM2_CH4, 14 PA4/SPI1_NSS/ADC_IN4, 15 PA5/SPI1_SCK/ADC_IN5, 16 PA6/SPI1_MISO/ADC_IN6/TIM3_CH1, 17 PA7/SPI1_MOSI/ADC_IN7/TIM3_CH2, 18 PB0/ADC_IN8/TIM3_CH3, 19 PB1/ADC_IN9/TIM3_CH4, 20 PB2/BOOT1, 21 PB10/I2C2_SCL/USART3_TX, 22 PB11/I2C2_SDA/USART3_RX, 23 VSS_1, 24 VDD_1, 25 PB12/SPI2_NSS/TIM1_BKIN, 26 PB13/SPI2_SCK/TIM1_CH1N, 27 PB14/SPI2_MISO/TIM1_CH2N, 28 PB15/SPI2_MOSI/TIM1_CH3N, 29 PA8/TIM1_CH1/MCO, 30 PA9/USART1_TX/TIM1_CH2, 31 PA10/USART1_RX/TIM1_CH3, 32 PA11/CANRX/USBDM/TIM1_CH4, 33 PA12/CANTX/USBDP/TIM1_ETR, 34 PA13/JTMS/SWDIO, 35 VSS_2, 36 VDD_2, 37 PA14/JTCK/SWCLK, 38 PA15/JTDI, 39 PB3/JTDO, 40 PB4/JNTRST, 41 PB5, 42 PB6/I2C1_SCL/TIM4_CH1, 43 PB7/I2C1_SDA/TIM4_CH2, 44 BOOT0, 45 PB8/TIM4_CH3, 46 PB9/TIM4_CH4, 47 VSS_3, 48 VDD_3
2 alternate drawings of the same symbol

## STM32F103VCT6
designator U?
LQFP100; 仓库名称: 元件仓; 单位: 只; 加工方式: 贴片; 物料代码: *; 物料名称: *; 助记码: *; 规格型号: *; 备注: *
footprint LQFP 100
pins: 1 PE2/TRACECK, 2 PE3/TRACED0, 3 PE4/TRACED1, 4 PE5/TRACED2, 5 PE6/TRACED3, 6 VBAT, 7 PC13-ANTI_TAMP, 8 PC14-OSC32_IN, 9 PC15-OSC32_OUT, 10 VSS, 11 VDD, 12 OSC_IN, 13 OSC_OUT, 14 NRST, 15 PC0/ADC_IN10, 16 PC1/ADC_IN11, 17 PC2/ADC_IN12, 18 PC3/ADC_IN13, 19 VSSA, 20 Vref-, 21 Vref+, 22 VDDA, 23 PA0-WKUP/USART2_CTS/ADC_IN0/TIM2_CH1_ETR, 24 PA1/USART2_RTS/ADC_IN1/TIM2_CH2, 25 PA2/USART2_TX/ADC_IN2/TIM2_CH3, 26 PA3/USART2_RX/ADC_IN3/TIM2_CH4, 27 VSS, 28 VDD, 29 PA4/SPI1_NSS/USART2_CK/ADC_IN4, 30 PA5/SPI1_SCK/ADC_IN5, 31 PA6/SPI1_MISO/ADC_IN6/TIM3_CH1, 32 PA7/SPI1_MOSI/ADC_IN7/TIM3_CH2, 33 PC4/ADC_IN14, 34 PC5/ADC_IN15, 35 PB0/ADC_IN8/TIM3_CH3, 36 PB1/ADC_IN9/TIM3_CH4, 37 PB2/BOOT1, 38 PE7, 39 PE8, 40 PE9, 41 PE10, 42 PE11, 43 PE12, 44 PE13, 45 PE14, 46 PE15, 47 PB10/I2C2_SCL/USART3_TX, 48 PB11/I2C2_SDA/USART3_RX, 49 VSS, 50 VDD, 51 PB12/SPI2_NSS/I2C2_SMBAI/USART3_CK/TIM1_BKIN, 52 PB13/SPI2_SCK/USART3_CTS/TIM1_CH1N, 53 PB14/SPI2_MISO/USART3_RTS/TIM1_CH2N, 54 PB15/SPI2_MOSI/TIM1_CH3N, 55 PD8, 56 PD9, 57 PD10, 58 PD11, 59 PD12, 60 PD13, 61 PD14, 62 PD15, 63 PC6, 64 PC7, 65 PC8, 66 PC9, 67 PA8/USART1_CK/TIM1_CH1/MCO, 68 PA9/USART1_TX/TIM1_CH2, 69 PA10/USART1_RX/TIM1_CH3, 70 PA11/USART1_CTS/CANRX/USBDM/TIM1_CH4, 71 PA12/USART1_RTS/CANTX/USBDP/TIM1_ETR, 72 PA13/JTMS/SWDIO, 73 NC, 74 VSS, 75 VDD, 76 PA14/JTCK/SWCLK, 77 PA15/JTDI, 78 PC10, 79 PC11, 80 PC12, 81 PD0, 82 PD1, 83 PD2/TIM3_ETR, 84 PD3, 85 PD4, 86 PD5, 87 PD6, 88 PD7, 89 PB3/JTDO/TRACESWO, 90 PB4/JNTRST, 91 PB5/I2C1_SMBAI, 92 PB6/I2C1_SCL/TIM4_CH1, 93 PB7/I2C1_SDA/TIM4_CH2, 94 BOOT0, 95 PB8/TIM4_CH3, 96 PB9/TIM4_CH4, 97 PE0/TIM4_ETR, 98 PE1, 99 VSS, 100 VDD

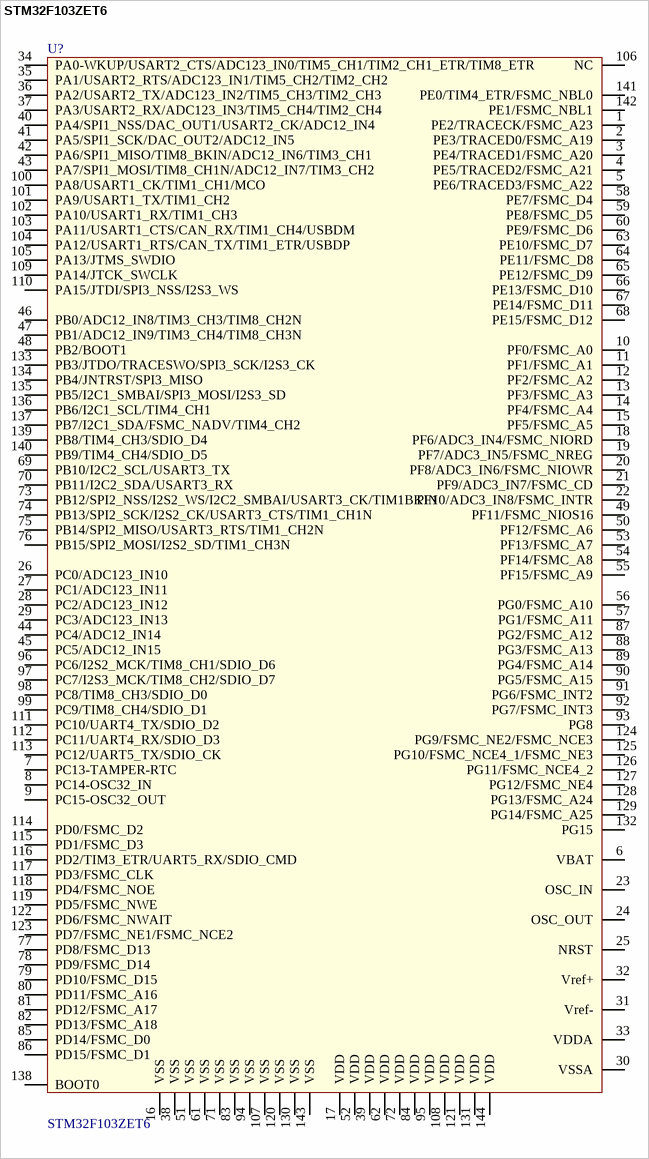
[diagram p6: symbol STM32F103ZET6]

## STM32F103ZET6
designator U?
LQFP144; 仓库名称: 元件仓; 单位: 只; 加工方式: 贴片; 物料代码: *; 物料名称: *; 助记码: *; 规格型号: *; 备注: *
footprint LQFP 144
pins: 1 PE2/TRACECK/FSMC_A23, 2 PE3/TRACED0/FSMC_A19, 3 PE4/TRACED1/FSMC_A20, 4 PE5/TRACED2/FSMC_A21, 5 PE6/TRACED3/FSMC_A22, 6 VBAT, 7 PC13-TAMPER-RTC, 8 PC14-OSC32_IN, 9 PC15-OSC32_OUT, 10 PF0/FSMC_A0, 11 PF1/FSMC_A1, 12 PF2/FSMC_A2, 13 PF3/FSMC_A3, 14 PF4/FSMC_A4, 15 PF5/FSMC_A5, 16 VSS, 17 VDD, 18 PF6/ADC3_IN4/FSMC_NIORD, 19 PF7/ADC3_IN5/FSMC_NREG, 20 PF8/ADC3_IN6/FSMC_NIOWR, 21 PF9/ADC3_IN7/FSMC_CD, 22 PF10/ADC3_IN8/FSMC_INTR, 23 OSC_IN, 24 OSC_OUT, 25 NRST, 26 PC0/ADC123_IN10, 27 PC1/ADC123_IN11, 28 PC2/ADC123_IN12, 29 PC3/ADC123_IN13, 30 VSSA, 31 Vref-, 32 Vref+, 33 VDDA, 34 PA0-WKUP/USART2_CTS/ADC123_IN0/TIM5_CH1/TIM2_CH1_ETR/TIM8_ETR, 35 PA1/USART2_RTS/ADC123_IN1/TIM5_CH2/TIM2_CH2, 36 PA2/USART2_TX/ADC123_IN2/TIM5_CH3/TIM2_CH3, 37 PA3/USART2_RX/ADC123_IN3/TIM5_CH4/TIM2_CH4, 38 VSS, 39 VDD, 40 PA4/SPI1_NSS/DAC_OUT1/USART2_CK/ADC12_IN4, 41 PA5/SPI1_SCK/DAC_OUT2/ADC12_IN5, 42 PA6/SPI1_MISO/TIM8_BKIN/ADC12_IN6/TIM3_CH1, 43 PA7/SPI1_MOSI/TIM8_CH1N/ADC12_IN7/TIM3_CH2, 44 PC4/ADC12_IN14, 45 PC5/ADC12_IN15, 46 PB0/ADC12_IN8/TIM3_CH3/TIM8_CH2N, 47 PB1/ADC12_IN9/TIM3_CH4/TIM8_CH3N, 48 PB2/BOOT1, 49 PF11/FSMC_NIOS16, 50 PF12/FSMC_A6, 51 VSS, 52 VDD, 53 PF13/FSMC_A7, 54 PF14/FSMC_A8, 55 PF15/FSMC_A9, 56 PG0/FSMC_A10, 57 PG1/FSMC_A11, 58 PE7/FSMC_D4, 59 PE8/FSMC_D5, 60 PE9/FSMC_D6, 61 VSS, 62 VDD, 63 PE10/FSMC_D7, 64 PE11/FSMC_D8, 65 PE12/FSMC_D9, 66 PE13/FSMC_D10, 67 PE14/FSMC_D11, 68 PE15/FSMC_D12, 69 PB10/I2C2_SCL/USART3_TX, 70 PB11/I2C2_SDA/USART3_RX, 71 VSS, 72 VDD, 73 PB12/SPI2_NSS/I2S2_WS/I2C2_SMBAI/USART3_CK/TIM1BKIN, 74 PB13/SPI2_SCK/I2S2_CK/USART3_CTS/TIM1_CH1N, 75 PB14/SPI2_MISO/USART3_RTS/TIM1_CH2N, 76 PB15/SPI2_MOSI/I2S2_SD/TIM1_CH3N, 77 PD8/FSMC_D13, 78 PD9/FSMC_D14, 79 PD10/FSMC_D15, 80 PD11/FSMC_A16, 81 PD12/FSMC_A17, 82 PD13/FSMC_A18, 83 VSS, 84 VDD, 85 PD14/FSMC_D0, 86 PD15/FSMC_D1, 87 PG2/FSMC_A12, 88 PG3/FSMC_A13, 89 PG4/FSMC_A14, 90 PG5/FSMC_A15, 91 PG6/FSMC_INT2, 92 PG7/FSMC_INT3, 93 PG8, 94 VSS, 95 VDD, 96 PC6/I2S2_MCK/TIM8_CH1/SDIO_D6, 97 PC7/I2S3_MCK/TIM8_CH2/SDIO_D7, 98 PC8/TIM8_CH3/SDIO_D0, 99 PC9/TIM8_CH4/SDIO_D1, 100 PA8/USART1_CK/TIM1_CH1/MCO, 101 PA9/USART1_TX/TIM1_CH2, 102 PA10/USART1_RX/TIM1_CH3, 103 PA11/USART1_CTS/CAN_RX/TIM1_CH4/USBDM, 104 PA12/USART1_RTS/CAN_TX/TIM1_ETR/USBDP, 105 PA13/JTMS_SWDIO, 106 NC, 107 VSS, 108 VDD, 109 PA14/JTCK_SWCLK, 110 PA15/JTDI/SPI3_NSS/I2S3_WS, 111 PC10/UART4_TX/SDIO_D2, 112 PC11/UART4_RX/SDIO_D3, 113 PC12/UART5_TX/SDIO_CK, 114 PD0/FSMC_D2, 115 PD1/FSMC_D3, 116 PD2/TIM3_ETR/UART5_RX/SDIO_CMD, 117 PD3/FSMC_CLK, 118 PD4/FSMC_NOE, 119 PD5/FSMC_NWE, 120 VSS, 121 VDD, 122 PD6/FSMC_NWAIT, 123 PD7/FSMC_NE1/FSMC_NCE2, 124 PG9/FSMC_NE2/FSMC_NCE3, 125 PG10/FSMC_NCE4_1/FSMC_NE3, 126 PG11/FSMC_NCE4_2, 127 PG12/FSMC_NE4, 128 PG13/FSMC_A24, 129 PG14/FSMC_A25, 130 VSS, 131 VDD, 132 PG15, 133 PB3/JTDO/TRACESWO/SPI3_SCK/I2S3_CK, 134 PB4/JNTRST/SPI3_MISO, 135 PB5/I2C1_SMBAI/SPI3_MOSI/I2S3_SD, 136 PB6/I2C1_SCL/TIM4_CH1, 137 PB7/I2C1_SDA/FSMC_NADV/TIM4_CH2, 138 BOOT0, 139 PB8/TIM4_CH3/SDIO_D4, 140 PB9/TIM4_CH4/SDIO_D5, 141 PE0/TIM4_ETR/FSMC_NBL0, 142 PE1/FSMC_NBL1, 143 VSS, 144 VDD

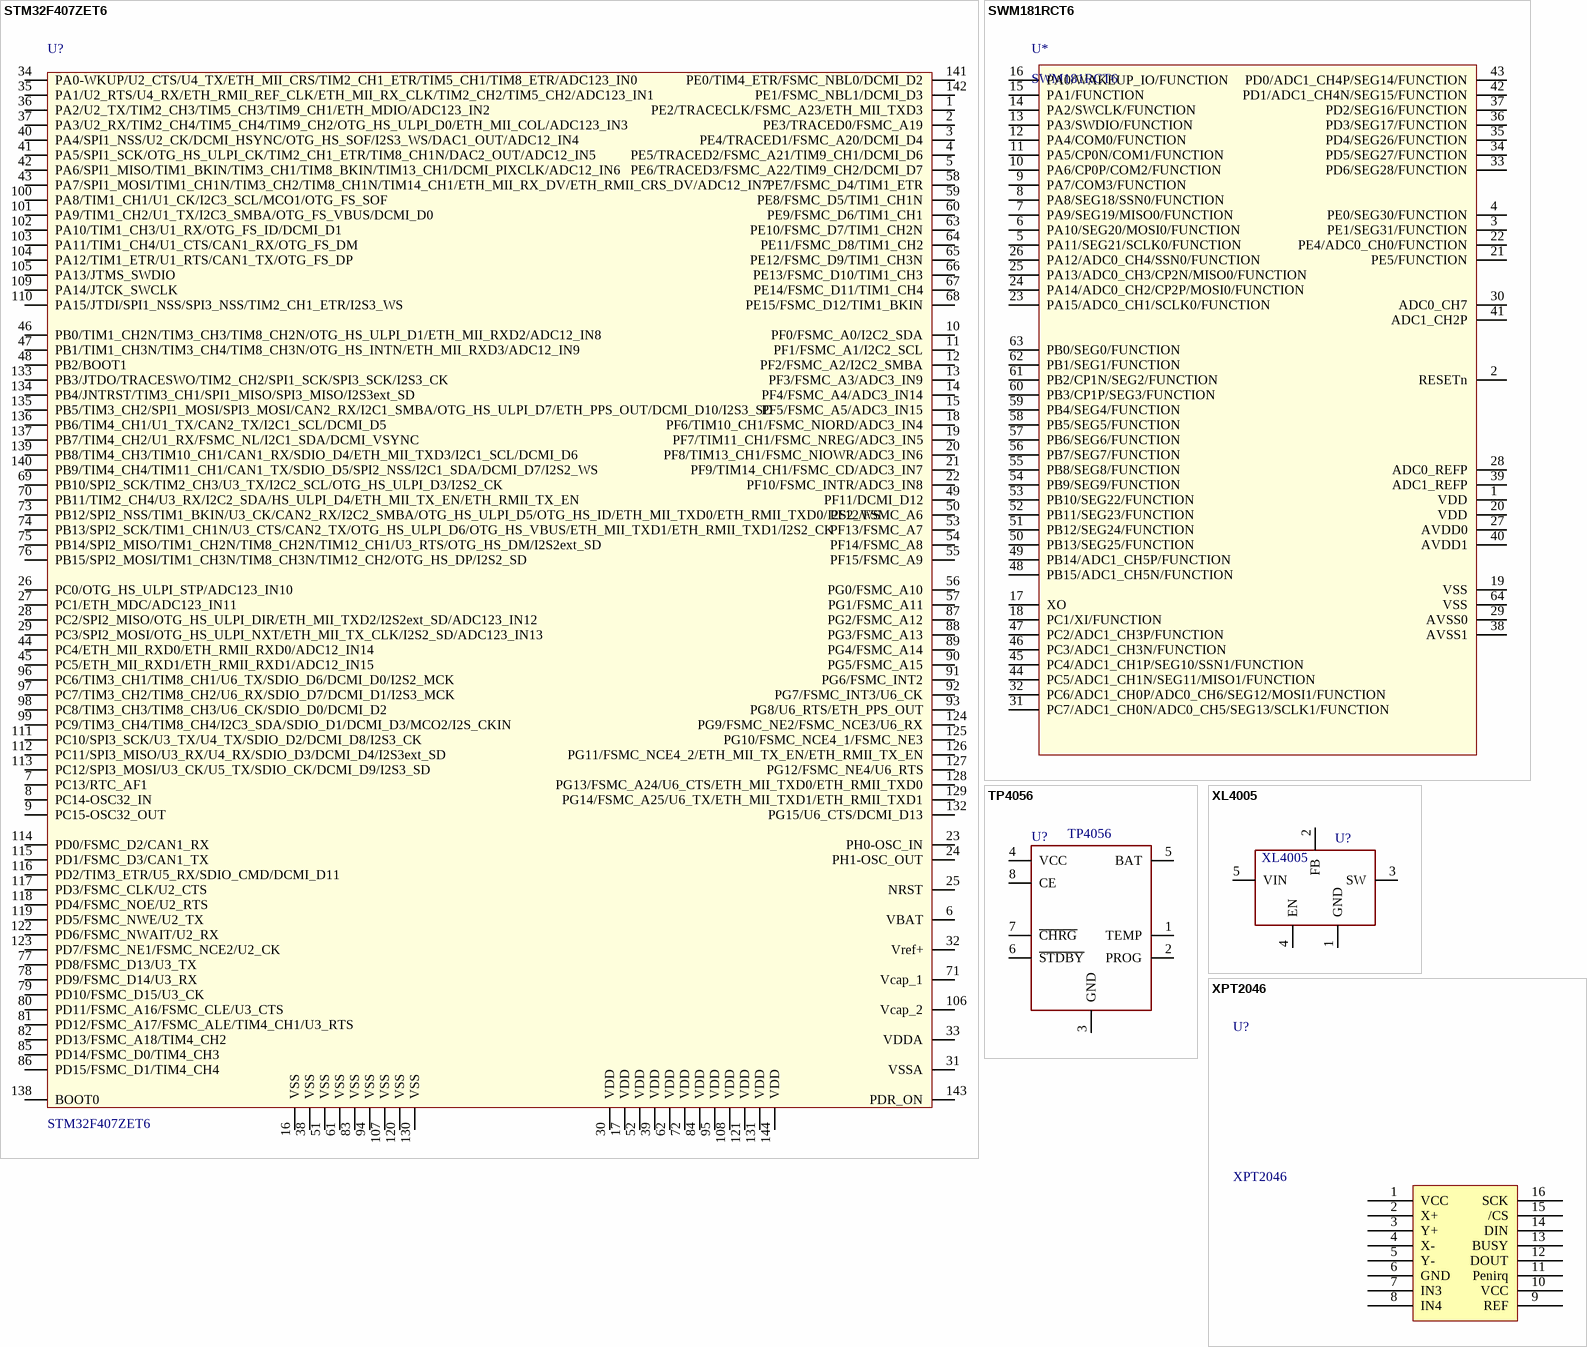
[diagram p7: symbols STM32F407ZET6 to XPT2046]

## STM32F407ZET6
designator U?
LQFP144; 仓库名称: 元件仓; 单位: 只; 加工方式: 贴片; 物料名称: *; 物料代码: *; 助记码: *; 规格型号: *; 备注: *
footprint LQFP 144
pins: 1 PE2/TRACECLK/FSMC_A23/ETH_MII_TXD3, 2 PE3/TRACED0/FSMC_A19, 3 PE4/TRACED1/FSMC_A20/DCMI_D4, 4 PE5/TRACED2/FSMC_A21/TIM9_CH1/DCMI_D6, 5 PE6/TRACED3/FSMC_A22/TIM9_CH2/DCMI_D7, 6 VBAT, 7 PC13/RTC_AF1, 8 PC14-OSC32_IN, 9 PC15-OSC32_OUT, 10 PF0/FSMC_A0/I2C2_SDA, 11 PF1/FSMC_A1/I2C2_SCL, 12 PF2/FSMC_A2/I2C2_SMBA, 13 PF3/FSMC_A3/ADC3_IN9, 14 PF4/FSMC_A4/ADC3_IN14, 15 PF5/FSMC_A5/ADC3_IN15, 16 VSS, 17 VDD, 18 PF6/TIM10_CH1/FSMC_NIORD/ADC3_IN4, 19 PF7/TIM11_CH1/FSMC_NREG/ADC3_IN5, 20 PF8/TIM13_CH1/FSMC_NIOWR/ADC3_IN6, 21 PF9/TIM14_CH1/FSMC_CD/ADC3_IN7, 22 PF10/FSMC_INTR/ADC3_IN8, 23 PH0-OSC_IN, 24 PH1-OSC_OUT, 25 NRST, 26 PC0/OTG_HS_ULPI_STP/ADC123_IN10, 27 PC1/ETH_MDC/ADC123_IN11, 28 PC2/SPI2_MISO/OTG_HS_ULPI_DIR/ETH_MII_TXD2/I2S2ext_SD/ADC123_IN12, 29 PC3/SPI2_MOSI/OTG_HS_ULPI_NXT/ETH_MII_TX_CLK/I2S2_SD/ADC123_IN13, 30 VDD, 31 VSSA, 32 Vref+, 33 VDDA, 34 PA0-WKUP/U2_CTS/U4_TX/ETH_MII_CRS/TIM2_CH1_ETR/TIM5_CH1/TIM8_ETR/ADC123_IN0, 35 PA1/U2_RTS/U4_RX/ETH_RMII_REF_CLK/ETH_MII_RX_CLK/TIM2_CH2/TIM5_CH2/ADC123_IN1, 36 PA2/U2_TX/TIM2_CH3/TIM5_CH3/TIM9_CH1/ETH_MDIO/ADC123_IN2, 37 PA3/U2_RX/TIM2_CH4/TIM5_CH4/TIM9_CH2/OTG_HS_ULPI_D0/ETH_MII_COL/ADC123_IN3, 38 VSS, 39 VDD, 40 PA4/SPI1_NSS/U2_CK/DCMI_HSYNC/OTG_HS_SOF/I2S3_WS/DAC1_OUT/ADC12_IN4, 41 PA5/SPI1_SCK/OTG_HS_ULPI_CK/TIM2_CH1_ETR/TIM8_CH1N/DAC2_OUT/ADC12_IN5, 42 PA6/SPI1_MISO/TIM1_BKIN/TIM3_CH1/TIM8_BKIN/TIM13_CH1/DCMI_PIXCLK/ADC12_IN6, 43 PA7/SPI1_MOSI/TIM1_CH1N/TIM3_CH2/TIM8_CH1N/TIM14_CH1/ETH_MII_RX_DV/ETH_RMII_CRS_DV/ADC12_IN7, 44 PC4/ETH_MII_RXD0/ETH_RMII_RXD0/ADC12_IN14, 45 PC5/ETH_MII_RXD1/ETH_RMII_RXD1/ADC12_IN15, 46 PB0/TIM1_CH2N/TIM3_CH3/TIM8_CH2N/OTG_HS_ULPI_D1/ETH_MII_RXD2/ADC12_IN8, 47 PB1/TIM1_CH3N/TIM3_CH4/TIM8_CH3N/OTG_HS_INTN/ETH_MII_RXD3/ADC12_IN9, 48 PB2/BOOT1, 49 PF11/DCMI_D12, 50 PF12/FSMC_A6, 51 VSS, 52 VDD, 53 PF13/FSMC_A7, 54 PF14/FSMC_A8, 55 PF15/FSMC_A9, 56 PG0/FSMC_A10, 57 PG1/FSMC_A11, 58 PE7/FSMC_D4/TIM1_ETR, 59 PE8/FSMC_D5/TIM1_CH1N, 60 PE9/FSMC_D6/TIM1_CH1, 61 VSS, 62 VDD, 63 PE10/FSMC_D7/TIM1_CH2N, 64 PE11/FSMC_D8/TIM1_CH2, 65 PE12/FSMC_D9/TIM1_CH3N, 66 PE13/FSMC_D10/TIM1_CH3, 67 PE14/FSMC_D11/TIM1_CH4, 68 PE15/FSMC_D12/TIM1_BKIN, 69 PB10/SPI2_SCK/TIM2_CH3/U3_TX/I2C2_SCL/OTG_HS_ULPI_D3/I2S2_CK, 70 PB11/TIM2_CH4/U3_RX/I2C2_SDA/HS_ULPI_D4/ETH_MII_TX_EN/ETH_RMII_TX_EN, 71 Vcap_1, 72 VDD, 73 PB12/SPI2_NSS/TIM1_BKIN/U3_CK/CAN2_RX/I2C2_SMBA/OTG_HS_ULPI_D5/OTG_HS_ID/ETH_MII_TXD0/ETH_RMII_TXD0/I2S2_WS, 74 PB13/SPI2_SCK/TIM1_CH1N/U3_CTS/CAN2_TX/OTG_HS_ULPI_D6/OTG_HS_VBUS/ETH_MII_TXD1/ETH_RMII_TXD1/I2S2_CK, 75 PB14/SPI2_MISO/TIM1_CH2N/TIM8_CH2N/TIM12_CH1/U3_RTS/OTG_HS_DM/I2S2ext_SD, 76 PB15/SPI2_MOSI/TIM1_CH3N/TIM8_CH3N/TIM12_CH2/OTG_HS_DP/I2S2_SD, 77 PD8/FSMC_D13/U3_TX, 78 PD9/FSMC_D14/U3_RX, 79 PD10/FSMC_D15/U3_CK, 80 PD11/FSMC_A16/FSMC_CLE/U3_CTS, 81 PD12/FSMC_A17/FSMC_ALE/TIM4_CH1/U3_RTS, 82 PD13/FSMC_A18/TIM4_CH2, 83 VSS, 84 VDD, 85 PD14/FSMC_D0/TIM4_CH3, 86 PD15/FSMC_D1/TIM4_CH4, 87 PG2/FSMC_A12, 88 PG3/FSMC_A13, 89 PG4/FSMC_A14, 90 PG5/FSMC_A15, 91 PG6/FSMC_INT2, 92 PG7/FSMC_INT3/U6_CK, 93 PG8/U6_RTS/ETH_PPS_OUT, 94 VSS, 95 VDD, 96 PC6/TIM3_CH1/TIM8_CH1/U6_TX/SDIO_D6/DCMI_D0/I2S2_MCK, 97 PC7/TIM3_CH2/TIM8_CH2/U6_RX/SDIO_D7/DCMI_D1/I2S3_MCK, 98 PC8/TIM3_CH3/TIM8_CH3/U6_CK/SDIO_D0/DCMI_D2, 99 PC9/TIM3_CH4/TIM8_CH4/I2C3_SDA/SDIO_D1/DCMI_D3/MCO2/I2S_CKIN, 100 PA8/TIM1_CH1/U1_CK/I2C3_SCL/MCO1/OTG_FS_SOF, 101 PA9/TIM1_CH2/U1_TX/I2C3_SMBA/OTG_FS_VBUS/DCMI_D0, 102 PA10/TIM1_CH3/U1_RX/OTG_FS_ID/DCMI_D1, 103 PA11/TIM1_CH4/U1_CTS/CAN1_RX/OTG_FS_DM, 104 PA12/TIM1_ETR/U1_RTS/CAN1_TX/OTG_FS_DP, 105 PA13/JTMS_SWDIO, 106 Vcap_2, 107 VSS, 108 VDD, 109 PA14/JTCK_SWCLK, 110 PA15/JTDI/SPI1_NSS/SPI3_NSS/TIM2_CH1_ETR/I2S3_WS, 111 PC10/SPI3_SCK/U3_TX/U4_TX/SDIO_D2/DCMI_D8/I2S3_CK, 112 PC11/SPI3_MISO/U3_RX/U4_RX/SDIO_D3/DCMI_D4/I2S3ext_SD, 113 PC12/SPI3_MOSI/U3_CK/U5_TX/SDIO_CK/DCMI_D9/I2S3_SD, 114 PD0/FSMC_D2/CAN1_RX, 115 PD1/FSMC_D3/CAN1_TX, 116 PD2/TIM3_ETR/U5_RX/SDIO_CMD/DCMI_D11, 117 PD3/FSMC_CLK/U2_CTS, 118 PD4/FSMC_NOE/U2_RTS, 119 PD5/FSMC_NWE/U2_TX, 120 VSS, 121 VDD, 122 PD6/FSMC_NWAIT/U2_RX, 123 PD7/FSMC_NE1/FSMC_NCE2/U2_CK, 124 PG9/FSMC_NE2/FSMC_NCE3/U6_RX, 125 PG10/FSMC_NCE4_1/FSMC_NE3, 126 PG11/FSMC_NCE4_2/ETH_MII_TX_EN/ETH_RMII_TX_EN, 127 PG12/FSMC_NE4/U6_RTS, 128 PG13/FSMC_A24/U6_CTS/ETH_MII_TXD0/ETH_RMII_TXD0, 129 PG14/FSMC_A25/U6_TX/ETH_MII_TXD1/ETH_RMII_TXD1, 130 VSS, 131 VDD, 132 PG15/U6_CTS/DCMI_D13, 133 PB3/JTDO/TRACESWO/TIM2_CH2/SPI1_SCK/SPI3_SCK/I2S3_CK, 134 PB4/JNTRST/TIM3_CH1/SPI1_MISO/SPI3_MISO/I2S3ext_SD, 135 PB5/TIM3_CH2/SPI1_MOSI/SPI3_MOSI/CAN2_RX/I2C1_SMBA/OTG_HS_ULPI_D7/ETH_PPS_OUT/DCMI_D10/I2S3_SD, 136 PB6/TIM4_CH1/U1_TX/CAN2_TX/I2C1_SCL/DCMI_D5, 137 PB7/TIM4_CH2/U1_RX/FSMC_NL/I2C1_SDA/DCMI_VSYNC, 138 BOOT0, 139 PB8/TIM4_CH3/TIM10_CH1/CAN1_RX/SDIO_D4/ETH_MII_TXD3/I2C1_SCL/DCMI_D6, 140 PB9/TIM4_CH4/TIM11_CH1/CAN1_TX/SDIO_D5/SPI2_NSS/I2C1_SDA/DCMI_D7/I2S2_WS, 141 PE0/TIM4_ETR/FSMC_NBL0/DCMI_D2, 142 PE1/FSMC_NBL1/DCMI_D3, 143 PDR_ON, 144 VDD

## SWM181RCT6
designator U*
LQFP64; 单位: 只; 仓库名称: 元件仓; 加工方式: 贴片; 物料名称: SWM181RCT6; 物料代码: *; 规格型号: *; 助记码: *; 备注: *
footprint LQFP  64
pins: 1 VDD, 2 RESETn, 3 PE1/SEG31/FUNCTION, 4 PE0/SEG30/FUNCTION, 5 PA11/SEG21/SCLK0/FUNCTION, 6 PA10/SEG20/MOSI0/FUNCTION, 7 PA9/SEG19/MISO0/FUNCTION, 8 PA8/SEG18/SSN0/FUNCTION, 9 PA7/COM3/FUNCTION, 10 PA6/CP0P/COM2/FUNCTION, 11 PA5/CP0N/COM1/FUNCTION, 12 PA4/COM0/FUNCTION, 13 PA3/SWDIO/FUNCTION, 14 PA2/SWCLK/FUNCTION, 15 PA1/FUNCTION, 16 PA0/WAKEUP_IO/FUNCTION, 17 XO, 18 PC1/XI/FUNCTION, 19 VSS, 20 VDD, 21 PE5/FUNCTION, 22 PE4/ADC0_CH0/FUNCTION, 23 PA15/ADC0_CH1/SCLK0/FUNCTION, 24 PA14/ADC0_CH2/CP2P/MOSI0/FUNCTION, 25 PA13/ADC0_CH3/CP2N/MISO0/FUNCTION, 26 PA12/ADC0_CH4/SSN0/FUNCTION, 27 AVDD0, 28 ADC0_REFP, 29 AVSS0, 30 ADC0_CH7, 31 PC7/ADC1_CH0N/ADC0_CH5/SEG13/SCLK1/FUNCTION, 32 PC6/ADC1_CH0P/ADC0_CH6/SEG12/MOSI1/FUNCTION, 33 PD6/SEG28/FUNCTION, 34 PD5/SEG27/FUNCTION, 35 PD4/SEG26/FUNCTION, 36 PD3/SEG17/FUNCTION, 37 PD2/SEG16/FUNCTION, 38 AVSS1, 39 ADC1_REFP, 40 AVDD1, 41 ADC1_CH2P, 42 PD1/ADC1_CH4N/SEG15/FUNCTION, 43 PD0/ADC1_CH4P/SEG14/FUNCTION, 44 PC5/ADC1_CH1N/SEG11/MISO1/FUNCTION, 45 PC4/ADC1_CH1P/SEG10/SSN1/FUNCTION, 46 PC3/ADC1_CH3N/FUNCTION, 47 PC2/ADC1_CH3P/FUNCTION, 48 PB15/ADC1_CH5N/FUNCTION, 49 PB14/ADC1_CH5P/FUNCTION, 50 PB13/SEG25/FUNCTION, 51 PB12/SEG24/FUNCTION, 52 PB11/SEG23/FUNCTION, 53 PB10/SEG22/FUNCTION, 54 PB9/SEG9/FUNCTION, 55 PB8/SEG8/FUNCTION, 56 PB7/SEG7/FUNCTION, 57 PB6/SEG6/FUNCTION, 58 PB5/SEG5/FUNCTION, 59 PB4/SEG4/FUNCTION, 60 PB3/CP1P/SEG3/FUNCTION, 61 PB2/CP1N/SEG2/FUNCTION, 62 PB1/SEG1/FUNCTION, 63 PB0/SEG0/FUNCTION, 64 VSS

## TP4056
designator U?
SO  8-9; 仓库名称: 元件仓; 单位: 只; 加工方式: 贴片; 物料代码: *; 物料名称: *; 助记码: *; 规格型号: *; 备注: *
footprint SO 8-9
pins: 1 TEMP, 2 PROG, 3 GND, 4 VCC, 5 BAT, 6 ~{STDBY}, 7 ~{CHRG}, 8 CE

## XL4005
designator U?
TO 263; 仓库名称: 元件仓; 单位: 只; 加工方式: 贴片; 物料名称: *; 物料代码: *; 助记码: *; 规格型号: *; 备注: *
footprint TO 263
pins: 1 GND, 2 FB, 3 SW, 4 EN, 5 VIN

## XPT2046
designator U?
HR2046贴片IC; 物料代码: 3.01.04.02.0081; 助记码: HR2046TPIC; 仓库名称: 元件仓; 规格型号: TSSOP-16; 单位: 只; 加工方式: 贴片; 物料名称: HR2046贴片IC
footprint TSSOP 16 (2046)
pins: 1 VCC, 2 X+, 3 Y+, 4 X-, 5 Y-, 6 GND, 7 IN3, 8 IN4, 9 REF, 10 VCC, 11 Penirq, 12 DOUT, 13 BUSY, 14 DIN, 15 /CS, 16 SCK